# Altium schematic symbol library CHXXX.schlib: 418 symbols (part 2 of 6)
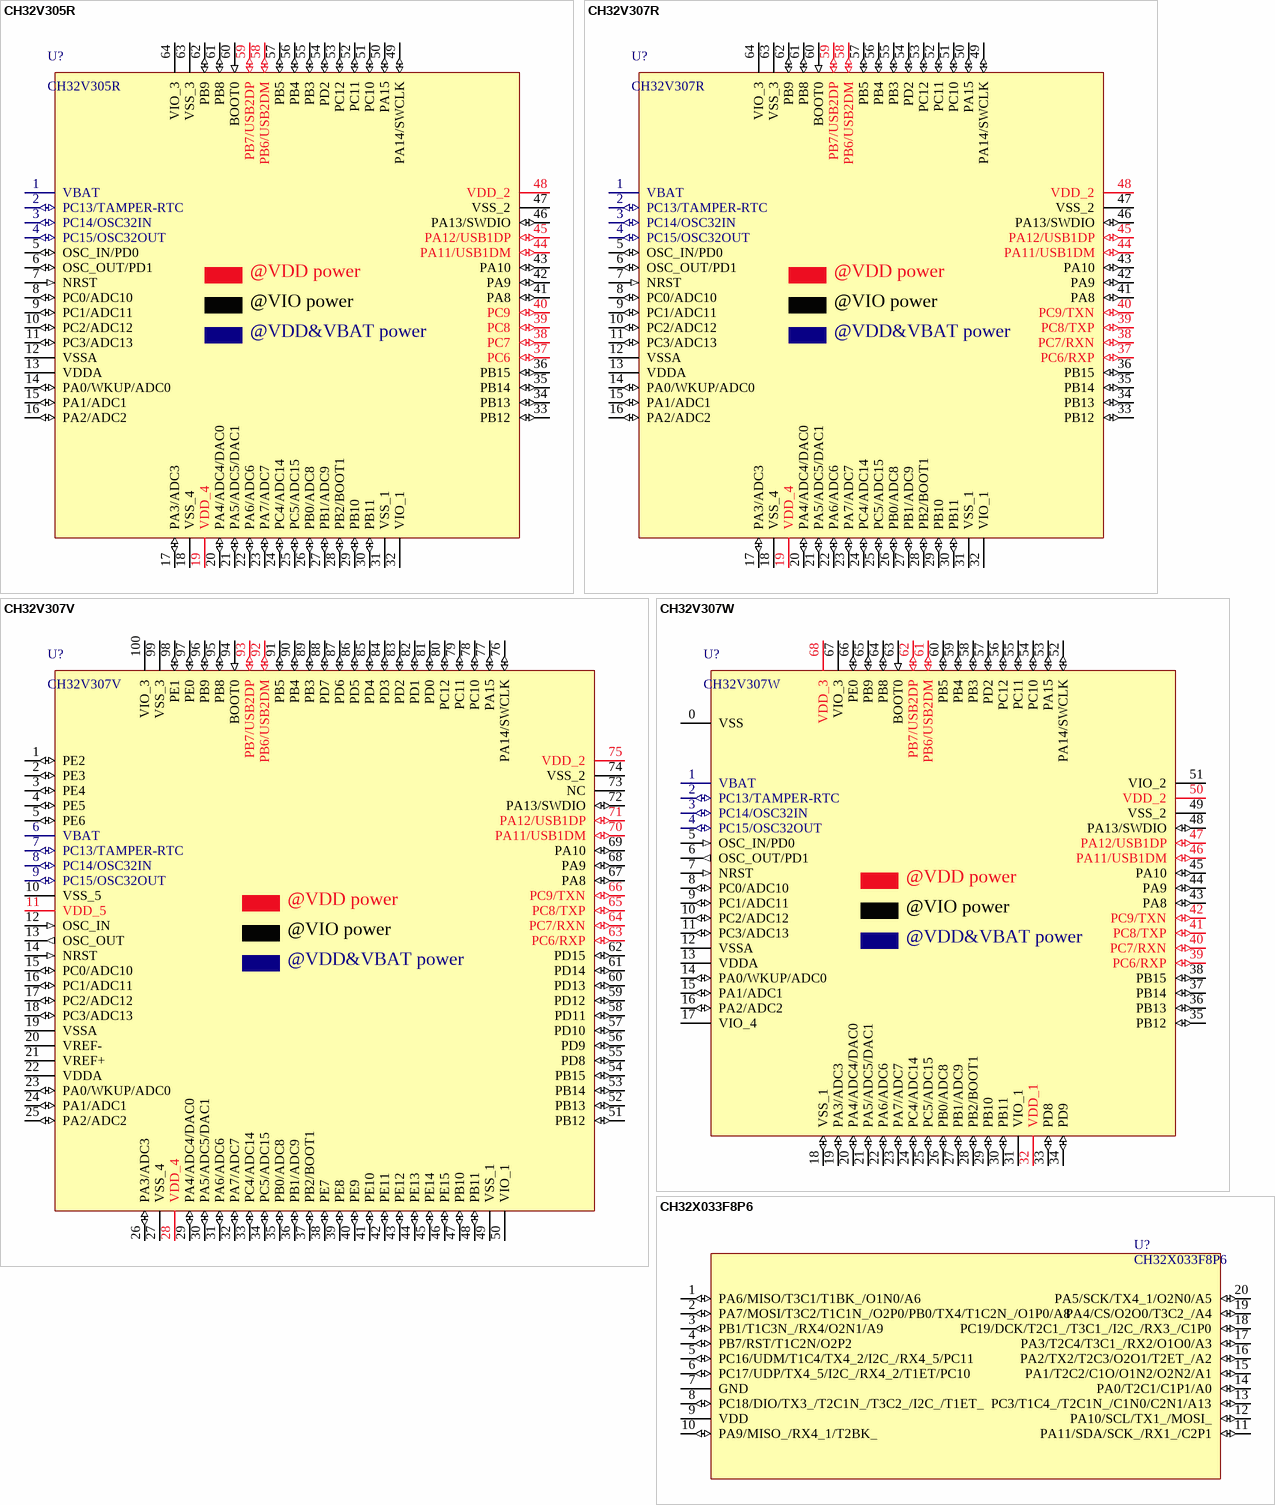
[diagram p51: symbols CH32V305R to CH32X033F8P6]

## CH32X033F8P6
designator U?
RISC-V MCU with USB/ADC/SPI/I2C/UART*4/OA*2/CMP*2
footprint TSSOP20 (Footprint not found)
pins: 1 PA6/MISO/T3C1/T1BK_/O1N0/A6 (io), 2 PA7/MOSI/T3C2/T1C1N_/O2P0/PB0/TX4/T1C2N_/O1P0/A8 (io), 3 PB1/T1C3N_/RX4/O2N1/A9 (io), 4 PB7/RST/T1C2N/O2P2 (io), 5 PC16/UDM/T1C4/TX4_2/I2C_/RX4_5/PC11 (io), 6 PC17/UDP/TX4_5/I2C_/RX4_2/T1ET/PC10 (io), 7 GND (power), 8 PC18/DIO/TX3_/T2C1N_/T3C2_/I2C_/T1ET_ (io), 9 VDD (power), 10 PA9/MISO_/RX4_1/T2BK_ (io), 11 PA11/SDA/SCK_/RX1_/C2P1 (io), 12 PA10/SCL/TX1_/MOSI_ (io), 13 PC3/T1C4_/T2C1N_/C1N0/C2N1/A13 (io), 14 PA0/T2C1/C1P1/A0 (io), 15 PA1/T2C2/C1O/O1N2/O2N2/A1 (io), 16 PA2/TX2/T2C3/O2O1/T2ET_/A2 (io), 17 PA3/T2C4/T3C1_/RX2/O1O0/A3 (io), 18 PC19/DCK/T2C1_/T3C1_/I2C_/RX3_/C1P0 (io), 19 PA4/CS/O2O0/T3C2_/A4 (io), 20 PA5/SCK/TX4_1/O2N0/A5 (io)

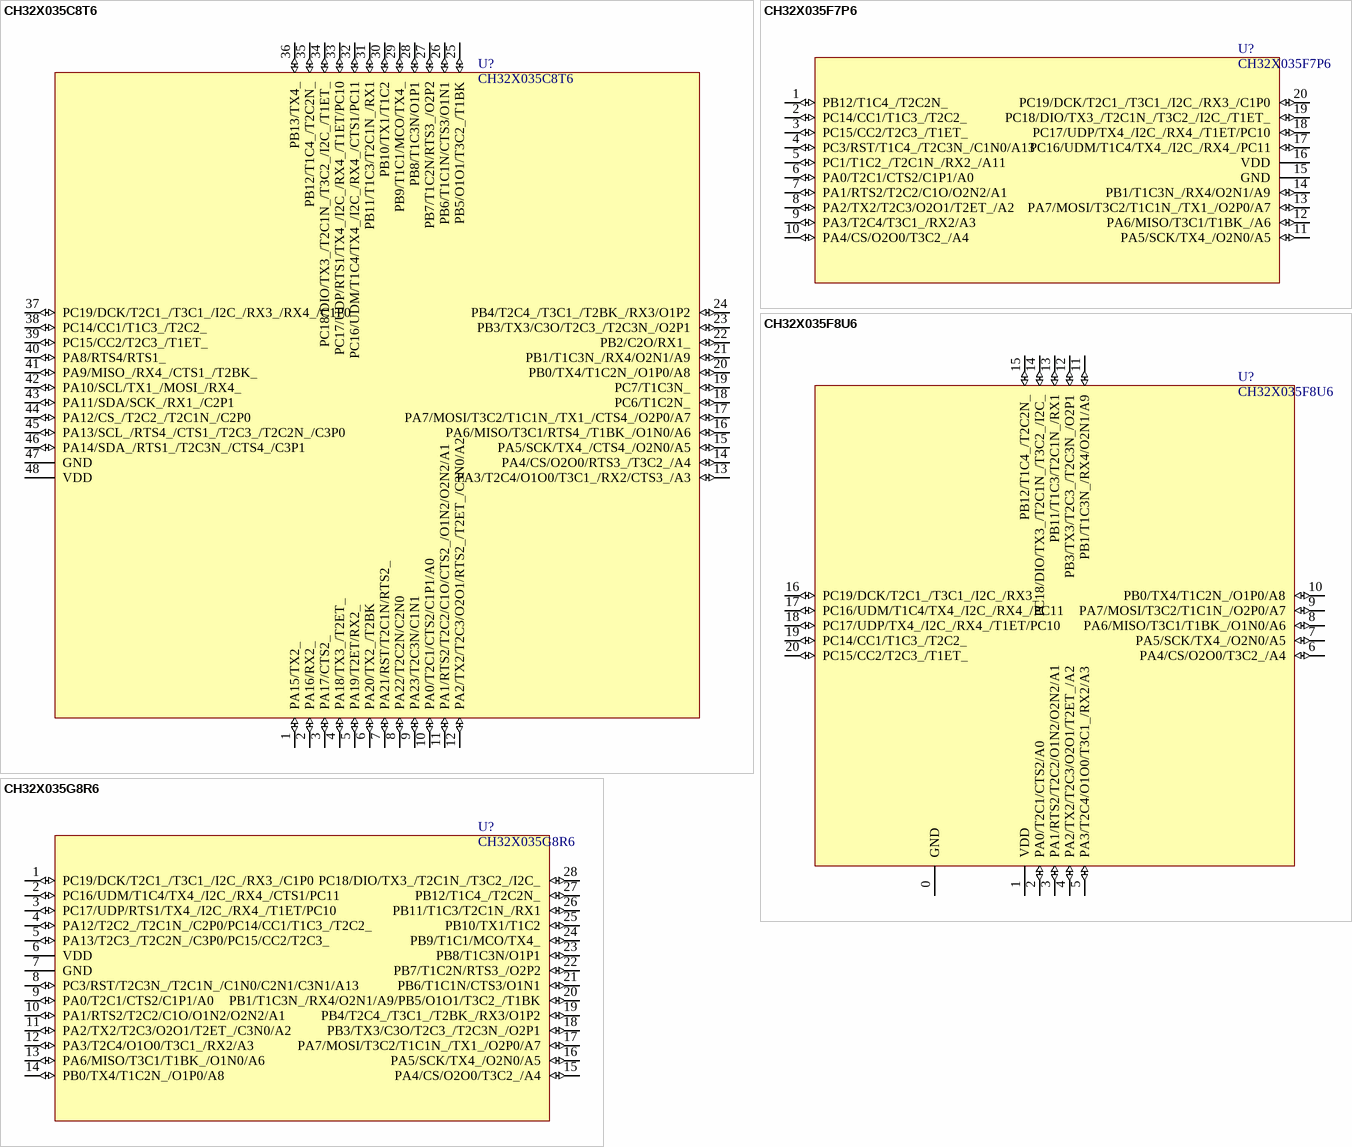
[diagram p9: symbols CH32X035C8T6 to CH32X035G8R6]

## CH32X035C8T6
designator U?
RISC-V MCU with USB/PD/ADC/SPI/I2C/UART/OA/CMP
footprint LQFP48 (Footprint not found)
pins: 1 PA15/TX2_ (io), 2 PA16/RX2_ (io), 3 PA17/CTS2_ (io), 4 PA18/TX3_/T2ET_ (io), 5 PA19/T2ET/RX2_ (io), 6 PA20/TX2_/T2BK (io), 7 PA21/RST/T2C1N/RTS2_ (io), 8 PA22/T2C2N/C2N0 (io), 9 PA23/T2C3N/C1N1 (io), 10 PA0/T2C1/CTS2/C1P1/A0 (io), 11 PA1/RTS2/T2C2/C1O/CTS2_/O1N2/O2N2/A1 (io), 12 PA2/TX2/T2C3/O2O1/RTS2_/T2ET_/C3N0/A2 (io), 13 PA3/T2C4/O1O0/T3C1_/RX2/CTS3_/A3 (io), 14 PA4/CS/O2O0/RTS3_/T3C2_/A4 (io), 15 PA5/SCK/TX4_/CTS4_/O2N0/A5 (io), 16 PA6/MISO/T3C1/RTS4_/T1BK_/O1N0/A6 (io), 17 PA7/MOSI/T3C2/T1C1N_/TX1_/CTS4_/O2P0/A7 (io), 18 PC6/T1C2N_ (io), 19 PC7/T1C3N_ (io), 20 PB0/TX4/T1C2N_/O1P0/A8 (io), 21 PB1/T1C3N_/RX4/O2N1/A9 (io), 22 PB2/C2O/RX1_ (io), 23 PB3/TX3/C3O/T2C3_/T2C3N_/O2P1 (io), 24 PB4/T2C4_/T3C1_/T2BK_/RX3/O1P2 (io), 25 PB5/O1O1/T3C2_/T1BK (io), 26 PB6/T1C1N/CTS3/O1N1 (io), 27 PB7/T1C2N/RTS3_/O2P2 (io), 28 PB8/T1C3N/O1P1 (io), 29 PB9/T1C1/MCO/TX4_ (io), 30 PB10/TX1/T1C2 (io), 31 PB11/T1C3/T2C1N_/RX1 (io), 32 PC16/UDM/T1C4/TX4_/I2C_/RX4_/CTS1/PC11 (io), 33 PC17/UDP/RTS1/TX4_/I2C_/RX4_/T1ET/PC10 (io), 34 PC18/DIO/TX3_/T2C1N_/T3C2_/I2C_/T1ET_ (io), 35 PB12/T1C4_/T2C2N_ (io), 36 PB13/TX4_ (io), 37 PC19/DCK/T2C1_/T3C1_/I2C_/RX3_/RX4_/C1P0 (io), 38 PC14/CC1/T1C3_/T2C2_ (io), 39 PC15/CC2/T2C3_/T1ET_ (io), 40 PA8/RTS4/RTS1_ (io), 41 PA9/MISO_/RX4_/CTS1_/T2BK_ (io), 42 PA10/SCL/TX1_/MOSI_/RX4_ (io), 43 PA11/SDA/SCK_/RX1_/C2P1 (io), 44 PA12/CS_/T2C2_/T2C1N_/C2P0 (io), 45 PA13/SCL_/RTS4_/CTS1_/T2C3_/T2C2N_/C3P0 (io), 46 PA14/SDA_/RTS1_/T2C3N_/CTS4_/C3P1 (io), 47 GND (power), 48 VDD (power)

## CH32X035F7P6
designator U?
RISC-V MCU with USB/PD/ADC/SPI/I2C/UART/OA/CMP
footprint TSSOP20 (Footprint not found)
pins: 1 PB12/T1C4_/T2C2N_ (io), 2 PC14/CC1/T1C3_/T2C2_ (io), 3 PC15/CC2/T2C3_/T1ET_ (io), 4 PC3/RST/T1C4_/T2C3N_/C1N0/A13 (io), 5 PC1/T1C2_/T2C1N_/RX2_/A11 (io), 6 PA0/T2C1/CTS2/C1P1/A0 (io), 7 PA1/RTS2/T2C2/C1O/O2N2/A1 (io), 8 PA2/TX2/T2C3/O2O1/T2ET_/A2 (io), 9 PA3/T2C4/T3C1_/RX2/A3 (io), 10 PA4/CS/O2O0/T3C2_/A4 (io), 11 PA5/SCK/TX4_/O2N0/A5 (io), 12 PA6/MISO/T3C1/T1BK_/A6 (io), 13 PA7/MOSI/T3C2/T1C1N_/TX1_/O2P0/A7 (io), 14 PB1/T1C3N_/RX4/O2N1/A9 (io), 15 GND (power), 16 VDD (power), 17 PC16/UDM/T1C4/TX4_/I2C_/RX4_/PC11 (io), 18 PC17/UDP/TX4_/I2C_/RX4_/T1ET/PC10 (io), 19 PC18/DIO/TX3_/T2C1N_/T3C2_/I2C_/T1ET_ (io), 20 PC19/DCK/T2C1_/T3C1_/I2C_/RX3_/C1P0 (io)

## CH32X035F8U6
designator U?
RISC-V MCU with USB/PD/ADC/SPI/I2C/UART/OA
footprint QFN20_3X3 (Footprint not found)
pins: 0 GND (power), 1 VDD (power), 2 PA0/T2C1/CTS2/A0 (io), 3 PA1/RTS2/T2C2/O1N2/O2N2/A1 (io), 4 PA2/TX2/T2C3/O2O1/T2ET_/A2 (io), 5 PA3/T2C4/O1O0/T3C1_/RX2/A3 (io), 6 PA4/CS/O2O0/T3C2_/A4 (io), 7 PA5/SCK/TX4_/O2N0/A5 (io), 8 PA6/MISO/T3C1/T1BK_/O1N0/A6 (io), 9 PA7/MOSI/T3C2/T1C1N_/O2P0/A7 (io), 10 PB0/TX4/T1C2N_/O1P0/A8 (io), 11 PB1/T1C3N_/RX4/O2N1/A9 (io), 12 PB3/TX3/T2C3_/T2C3N_/O2P1 (io), 13 PB11/T1C3/T2C1N_/RX1 (io), 14 PC18/DIO/TX3_/T2C1N_/T3C2_/I2C_ (io), 15 PB12/T1C4_/T2C2N_ (io), 16 PC19/DCK/T2C1_/T3C1_/I2C_/RX3_ (io), 17 PC16/UDM/T1C4/TX4_/I2C_/RX4_/PC11 (io), 18 PC17/UDP/TX4_/I2C_/RX4_/T1ET/PC10 (io), 19 PC14/CC1/T1C3_/T2C2_ (io), 20 PC15/CC2/T2C3_/T1ET_ (io)

## CH32X035G8R6
designator U?
RISC-V MCU with USB/PD/ADC/SPI/I2C/UART/OA/CMP
footprint QSOP28 (Footprint not found)
pins: 1 PC19/DCK/T2C1_/T3C1_/I2C_/RX3_/C1P0 (io), 2 PC16/UDM/T1C4/TX4_/I2C_/RX4_/CTS1/PC11 (io), 3 PC17/UDP/RTS1/TX4_/I2C_/RX4_/T1ET/PC10 (io), 4 PA12/T2C2_/T2C1N_/C2P0/PC14/CC1/T1C3_/T2C2_ (io), 5 PA13/T2C3_/T2C2N_/C3P0/PC15/CC2/T2C3_ (io), 6 VDD (power), 7 GND (power), 8 PC3/RST/T2C3N_/T2C1N_/C1N0/C2N1/C3N1/A13 (io), 9 PA0/T2C1/CTS2/C1P1/A0 (io), 10 PA1/RTS2/T2C2/C1O/O1N2/O2N2/A1 (io), 11 PA2/TX2/T2C3/O2O1/T2ET_/C3N0/A2 (io), 12 PA3/T2C4/O1O0/T3C1_/RX2/A3 (io), 13 PA6/MISO/T3C1/T1BK_/O1N0/A6 (io), 14 PB0/TX4/T1C2N_/O1P0/A8 (io), 15 PA4/CS/O2O0/T3C2_/A4 (io), 16 PA5/SCK/TX4_/O2N0/A5 (io), 17 PA7/MOSI/T3C2/T1C1N_/TX1_/O2P0/A7 (io), 18 PB3/TX3/C3O/T2C3_/T2C3N_/O2P1 (io), 19 PB4/T2C4_/T3C1_/T2BK_/RX3/O1P2 (io), 20 PB1/T1C3N_/RX4/O2N1/A9/PB5/O1O1/T3C2_/T1BK (io), 21 PB6/T1C1N/CTS3/O1N1 (io), 22 PB7/T1C2N/RTS3_/O2P2 (io), 23 PB8/T1C3N/O1P1 (io), 24 PB9/T1C1/MCO/TX4_ (io), 25 PB10/TX1/T1C2 (io), 26 PB11/T1C3/T2C1N_/RX1 (io), 27 PB12/T1C4_/T2C2N_ (io), 28 PC18/DIO/TX3_/T2C1N_/T3C2_/I2C_ (io)

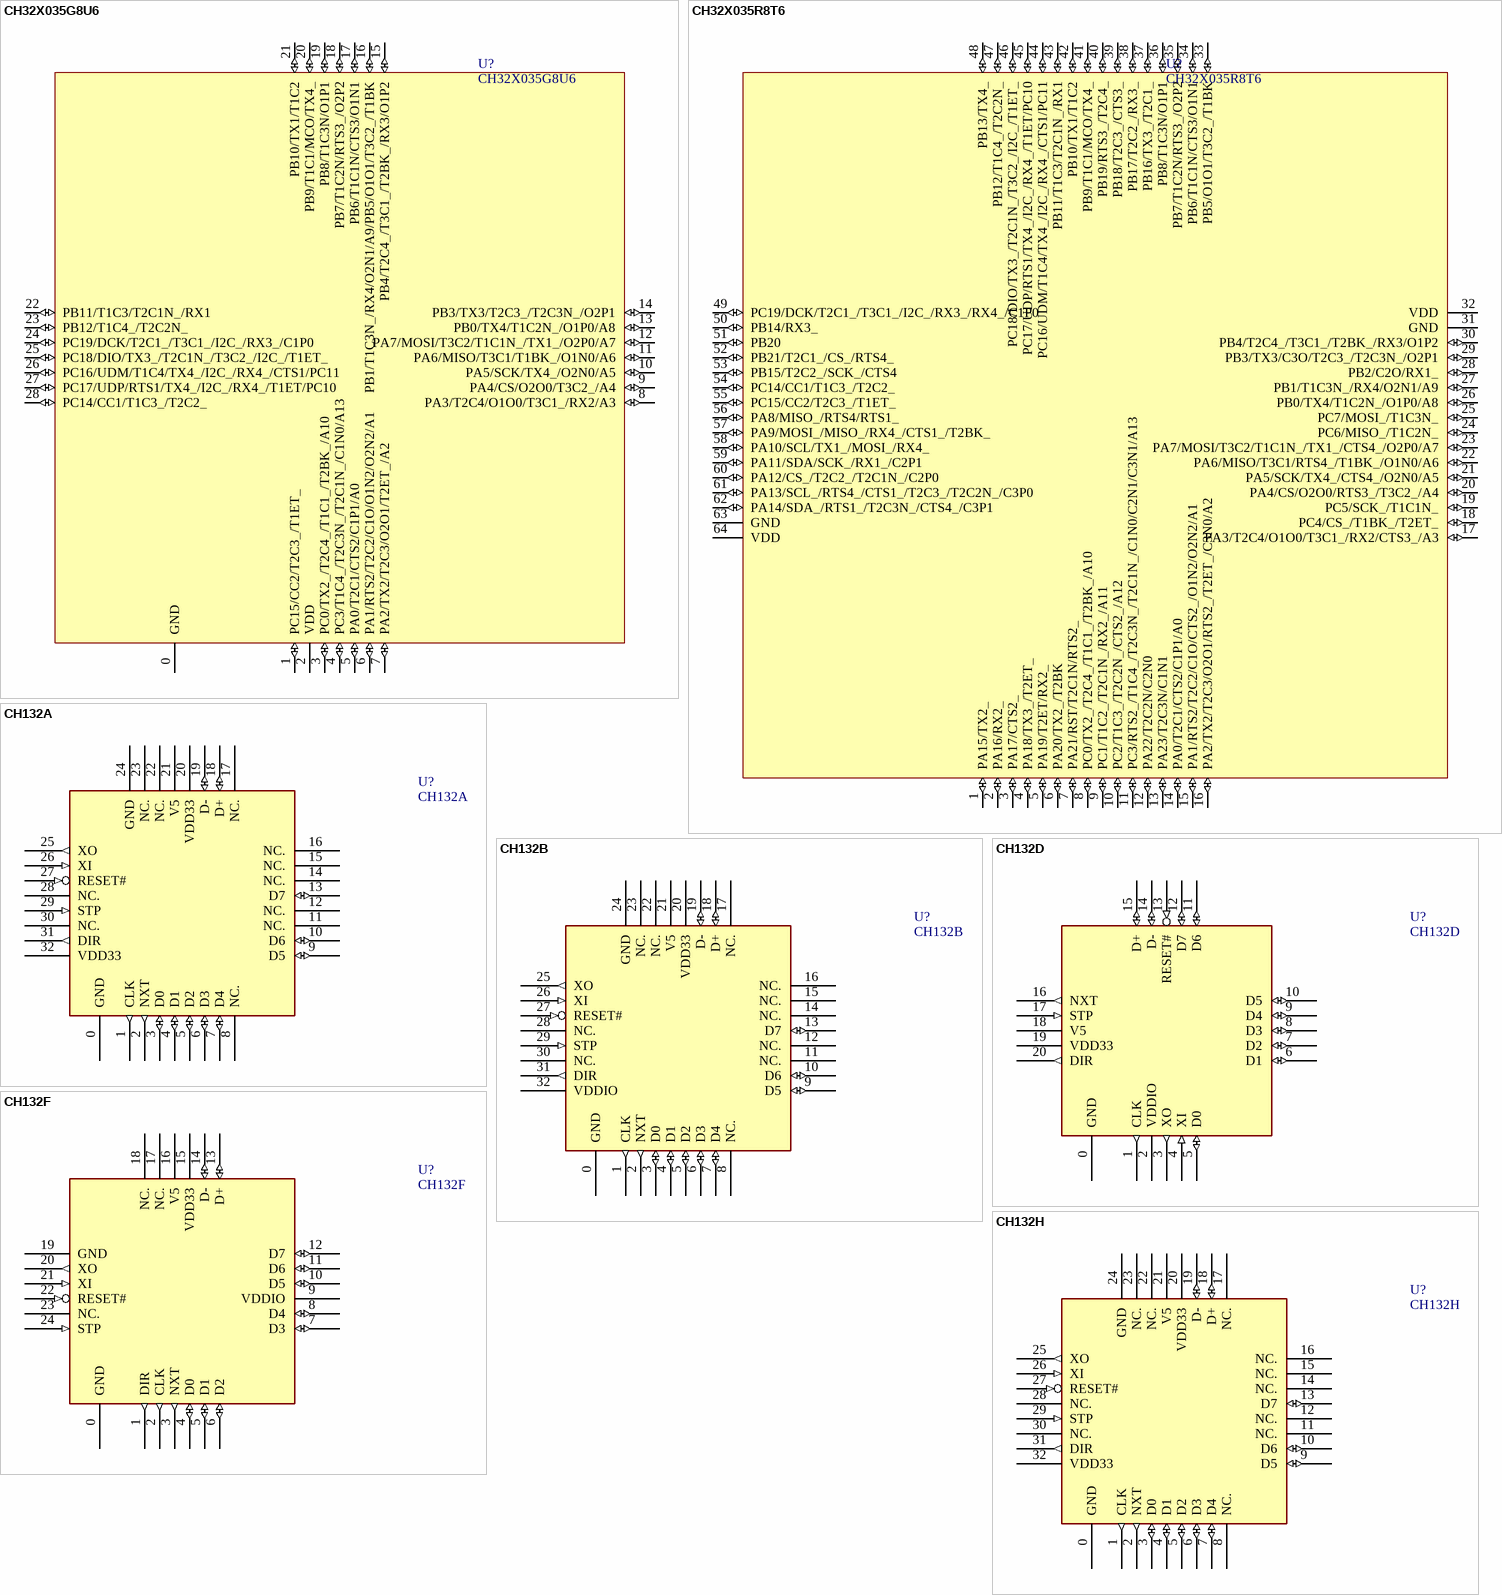
[diagram p10: symbols CH32X035G8U6 to CH132H]

## CH32X035G8U6
designator U?
RISC-V MCU with USB/PD/ADC/SPI/I2C/UART/OA/CMP
footprint QFN28_4X4 (Footprint not found)
pins: 0 GND (power), 1 PC15/CC2/T2C3_/T1ET_ (io), 2 VDD (power), 3 PC0/TX2_/T2C4_/T1C1_/T2BK_/A10 (io), 4 PC3/T1C4_/T2C3N_/T2C1N_/C1N0/A13 (io), 5 PA0/T2C1/CTS2/C1P1/A0 (io), 6 PA1/RTS2/T2C2/C1O/O1N2/O2N2/A1 (io), 7 PA2/TX2/T2C3/O2O1/T2ET_/A2 (io), 8 PA3/T2C4/O1O0/T3C1_/RX2/A3 (io), 9 PA4/CS/O2O0/T3C2_/A4 (io), 10 PA5/SCK/TX4_/O2N0/A5 (io), 11 PA6/MISO/T3C1/T1BK_/O1N0/A6 (io), 12 PA7/MOSI/T3C2/T1C1N_/TX1_/O2P0/A7 (io), 13 PB0/TX4/T1C2N_/O1P0/A8 (io), 14 PB3/TX3/T2C3_/T2C3N_/O2P1 (io), 15 PB4/T2C4_/T3C1_/T2BK_/RX3/O1P2 (io), 16 PB1/T1C3N_/RX4/O2N1/A9/PB5/O1O1/T3C2_/T1BK (io), 17 PB6/T1C1N/CTS3/O1N1 (io), 18 PB7/T1C2N/RTS3_/O2P2 (io), 19 PB8/T1C3N/O1P1 (io), 20 PB9/T1C1/MCO/TX4_ (io), 21 PB10/TX1/T1C2 (io), 22 PB11/T1C3/T2C1N_/RX1 (io), 23 PB12/T1C4_/T2C2N_ (io), 24 PC19/DCK/T2C1_/T3C1_/I2C_/RX3_/C1P0 (io), 25 PC18/DIO/TX3_/T2C1N_/T3C2_/I2C_/T1ET_ (io), 26 PC16/UDM/T1C4/TX4_/I2C_/RX4_/CTS1/PC11 (io), 27 PC17/UDP/RTS1/TX4_/I2C_/RX4_/T1ET/PC10 (io), 28 PC14/CC1/T1C3_/T2C2_ (io)

## CH32X035R8T6
designator U?
RISC-V MCU with USB/PD/ADC/SPI/I2C/UART/OA/CMP
footprint LQFP64M_10x10
pins: 1 PA15/TX2_ (io), 2 PA16/RX2_ (io), 3 PA17/CTS2_ (io), 4 PA18/TX3_/T2ET_ (io), 5 PA19/T2ET/RX2_ (io), 6 PA20/TX2_/T2BK (io), 7 PA21/RST/T2C1N/RTS2_ (io), 8 PC0/TX2_/T2C4_/T1C1_/T2BK_/A10 (io), 9 PC1/T1C2_/T2C1N_/RX2_/A11 (io), 10 PC2/T1C3_/T2C2N_/CTS2_/A12 (io), 11 PC3/RTS2_/T1C4_/T2C3N_/T2C1N_/C1N0/C2N1/C3N1/A13 (io), 12 PA22/T2C2N/C2N0 (io), 13 PA23/T2C3N/C1N1 (io), 14 PA0/T2C1/CTS2/C1P1/A0 (io), 15 PA1/RTS2/T2C2/C1O/CTS2_/O1N2/O2N2/A1 (io), 16 PA2/TX2/T2C3/O2O1/RTS2_/T2ET_/C3N0/A2 (io), 17 PA3/T2C4/O1O0/T3C1_/RX2/CTS3_/A3 (io), 18 PC4/CS_/T1BK_/T2ET_ (io), 19 PC5/SCK_/T1C1N_ (io), 20 PA4/CS/O2O0/RTS3_/T3C2_/A4 (io), 21 PA5/SCK/TX4_/CTS4_/O2N0/A5 (io), 22 PA6/MISO/T3C1/RTS4_/T1BK_/O1N0/A6 (io), 23 PA7/MOSI/T3C2/T1C1N_/TX1_/CTS4_/O2P0/A7 (io), 24 PC6/MISO_/T1C2N_ (io), 25 PC7/MOSI_/T1C3N_ (io), 26 PB0/TX4/T1C2N_/O1P0/A8 (io), 27 PB1/T1C3N_/RX4/O2N1/A9 (io), 28 PB2/C2O/RX1_ (io), 29 PB3/TX3/C3O/T2C3_/T2C3N_/O2P1 (io), 30 PB4/T2C4_/T3C1_/T2BK_/RX3/O1P2 (io), 31 GND (power), 32 VDD (power), 33 PB5/O1O1/T3C2_/T1BK (io), 34 PB6/T1C1N/CTS3/O1N1 (io), 35 PB7/T1C2N/RTS3_/O2P2 (io), 36 PB8/T1C3N/O1P1 (io), 37 PB16/TX3_/T2C1_ (io), 38 PB17/T2C2_/RX3_ (io), 39 PB18/T2C3_/CTS3_ (io), 40 PB19/RTS3_/T2C4_ (io), 41 PB9/T1C1/MCO/TX4_ (io), 42 PB10/TX1/T1C2 (io), 43 PB11/T1C3/T2C1N_/RX1 (io), 44 PC16/UDM/T1C4/TX4_/I2C_/RX4_/CTS1/PC11 (io), 45 PC17/UDP/RTS1/TX4_/I2C_/RX4_/T1ET/PC10 (io), 46 PC18/DIO/TX3_/T2C1N_/T3C2_/I2C_/T1ET_ (io), 47 PB12/T1C4_/T2C2N_ (io), 48 PB13/TX4_ (io), 49 PC19/DCK/T2C1_/T3C1_/I2C_/RX3_/RX4_/C1P0 (io), 50 PB14/RX3_ (io), 51 PB20 (io), 52 PB21/T2C1_/CS_/RTS4_ (io), 53 PB15/T2C2_/SCK_/CTS4 (io), 54 PC14/CC1/T1C3_/T2C2_ (io), 55 PC15/CC2/T2C3_/T1ET_ (io), 56 PA8/MISO_/RTS4/RTS1_ (io), 57 PA9/MOSI_/MISO_/RX4_/CTS1_/T2BK_ (io), 58 PA10/SCL/TX1_/MOSI_/RX4_ (io), 59 PA11/SDA/SCK_/RX1_/C2P1 (io), 60 PA12/CS_/T2C2_/T2C1N_/C2P0 (io), 61 PA13/SCL_/RTS4_/CTS1_/T2C3_/T2C2N_/C3P0 (io), 62 PA14/SDA_/RTS1_/T2C3N_/CTS4_/C3P1 (io), 63 GND (power), 64 VDD (power)

## CH132A
designator U?
ULPI High-Speed USB PHY (Transceiver)
footprint QFN32_5X5 (Footprint not found)
pins: 0 GND (power), 1 CLK (out), 2 NXT (out), 3 D0 (io), 4 D1 (io), 5 D2 (io), 6 D3 (io), 7 D4 (io), 8 NC., 9 D5 (io), 10 D6 (io), 11 NC., 12 NC., 13 D7 (io), 14 NC., 15 NC., 16 NC., 17 NC., 18 D+ (io), 19 D- (io), 20 VDD33 (power), 21 V5 (power), 22 NC., 23 NC., 24 GND (power), 25 XO (out), 26 XI (in), 27 RESET# (in), 28 NC., 29 STP (in), 30 NC., 31 DIR (out), 32 VDD33
2 alternate drawings of the same symbol

## CH132B
designator U?
ULPI High-Speed USB PHY (Transceiver)
footprint QFN32_5X5 (Footprint not found)
pins: 0 GND (power), 1 CLK (out), 2 NXT (out), 3 D0 (io), 4 D1 (io), 5 D2 (io), 6 D3 (io), 7 D4 (io), 8 NC., 9 D5 (io), 10 D6 (io), 11 NC., 12 NC., 13 D7 (io), 14 NC., 15 NC., 16 NC., 17 NC., 18 D+ (io), 19 D- (io), 20 VDD33 (power), 21 V5 (power), 22 NC., 23 NC., 24 GND (power), 25 XO (out), 26 XI (in), 27 RESET# (in), 28 NC., 29 STP (in), 30 NC., 31 DIR (out), 32 VDDIO
2 alternate drawings of the same symbol

## CH132D
designator U?
ULPI High-Speed USB PHY (Transceiver)
footprint QFN20_3X3 (Footprint not found)
pins: 0 GND (power), 1 CLK (out), 2 VDDIO (power), 3 XO (out), 4 XI (in), 5 D0 (io), 6 D1 (io), 7 D2 (io), 8 D3 (io), 9 D4 (io), 10 D5 (io), 11 D6 (io), 12 D7 (io), 13 RESET# (in), 14 D- (io), 15 D+ (io), 16 NXT (out), 17 STP (in), 18 V5 (power), 19 VDD33 (power), 20 DIR (out)
2 alternate drawings of the same symbol

## CH132F
designator U?
ULPI High-Speed USB PHY (Transceiver)
footprint QFN24_4X4 (Footprint not found)
pins: 0 GND (power), 1 DIR (out), 2 CLK (out), 3 NXT (out), 4 D0 (io), 5 D1 (io), 6 D2 (io), 7 D3 (io), 8 D4 (io), 9 VDDIO (power), 10 D5 (io), 11 D6 (io), 12 D7 (io), 13 D+ (io), 14 D- (io), 15 VDD33 (power), 16 V5 (power), 17 NC., 18 NC., 19 GND (power), 20 XO (out), 21 XI (in), 22 RESET# (in), 23 NC., 24 STP (in)
2 alternate drawings of the same symbol

## CH132H
designator U?
ULPI High-Speed USB PHY (Transceiver)
footprint QFN32_5X5 (Footprint not found)
pins: 0 GND (power), 1 CLK (out), 2 NXT (out), 3 D0 (io), 4 D1 (io), 5 D2 (io), 6 D3 (io), 7 D4 (io), 8 NC., 9 D5 (io), 10 D6 (io), 11 NC., 12 NC., 13 D7 (io), 14 NC., 15 NC., 16 NC., 17 NC., 18 D+ (io), 19 D- (io), 20 VDD33 (power), 21 V5 (power), 22 NC., 23 NC., 24 GND (power), 25 XO (out), 26 XI (in), 27 RESET# (in), 28 NC., 29 STP (in), 30 NC., 31 DIR (out), 32 VDD33 (power)
2 alternate drawings of the same symbol

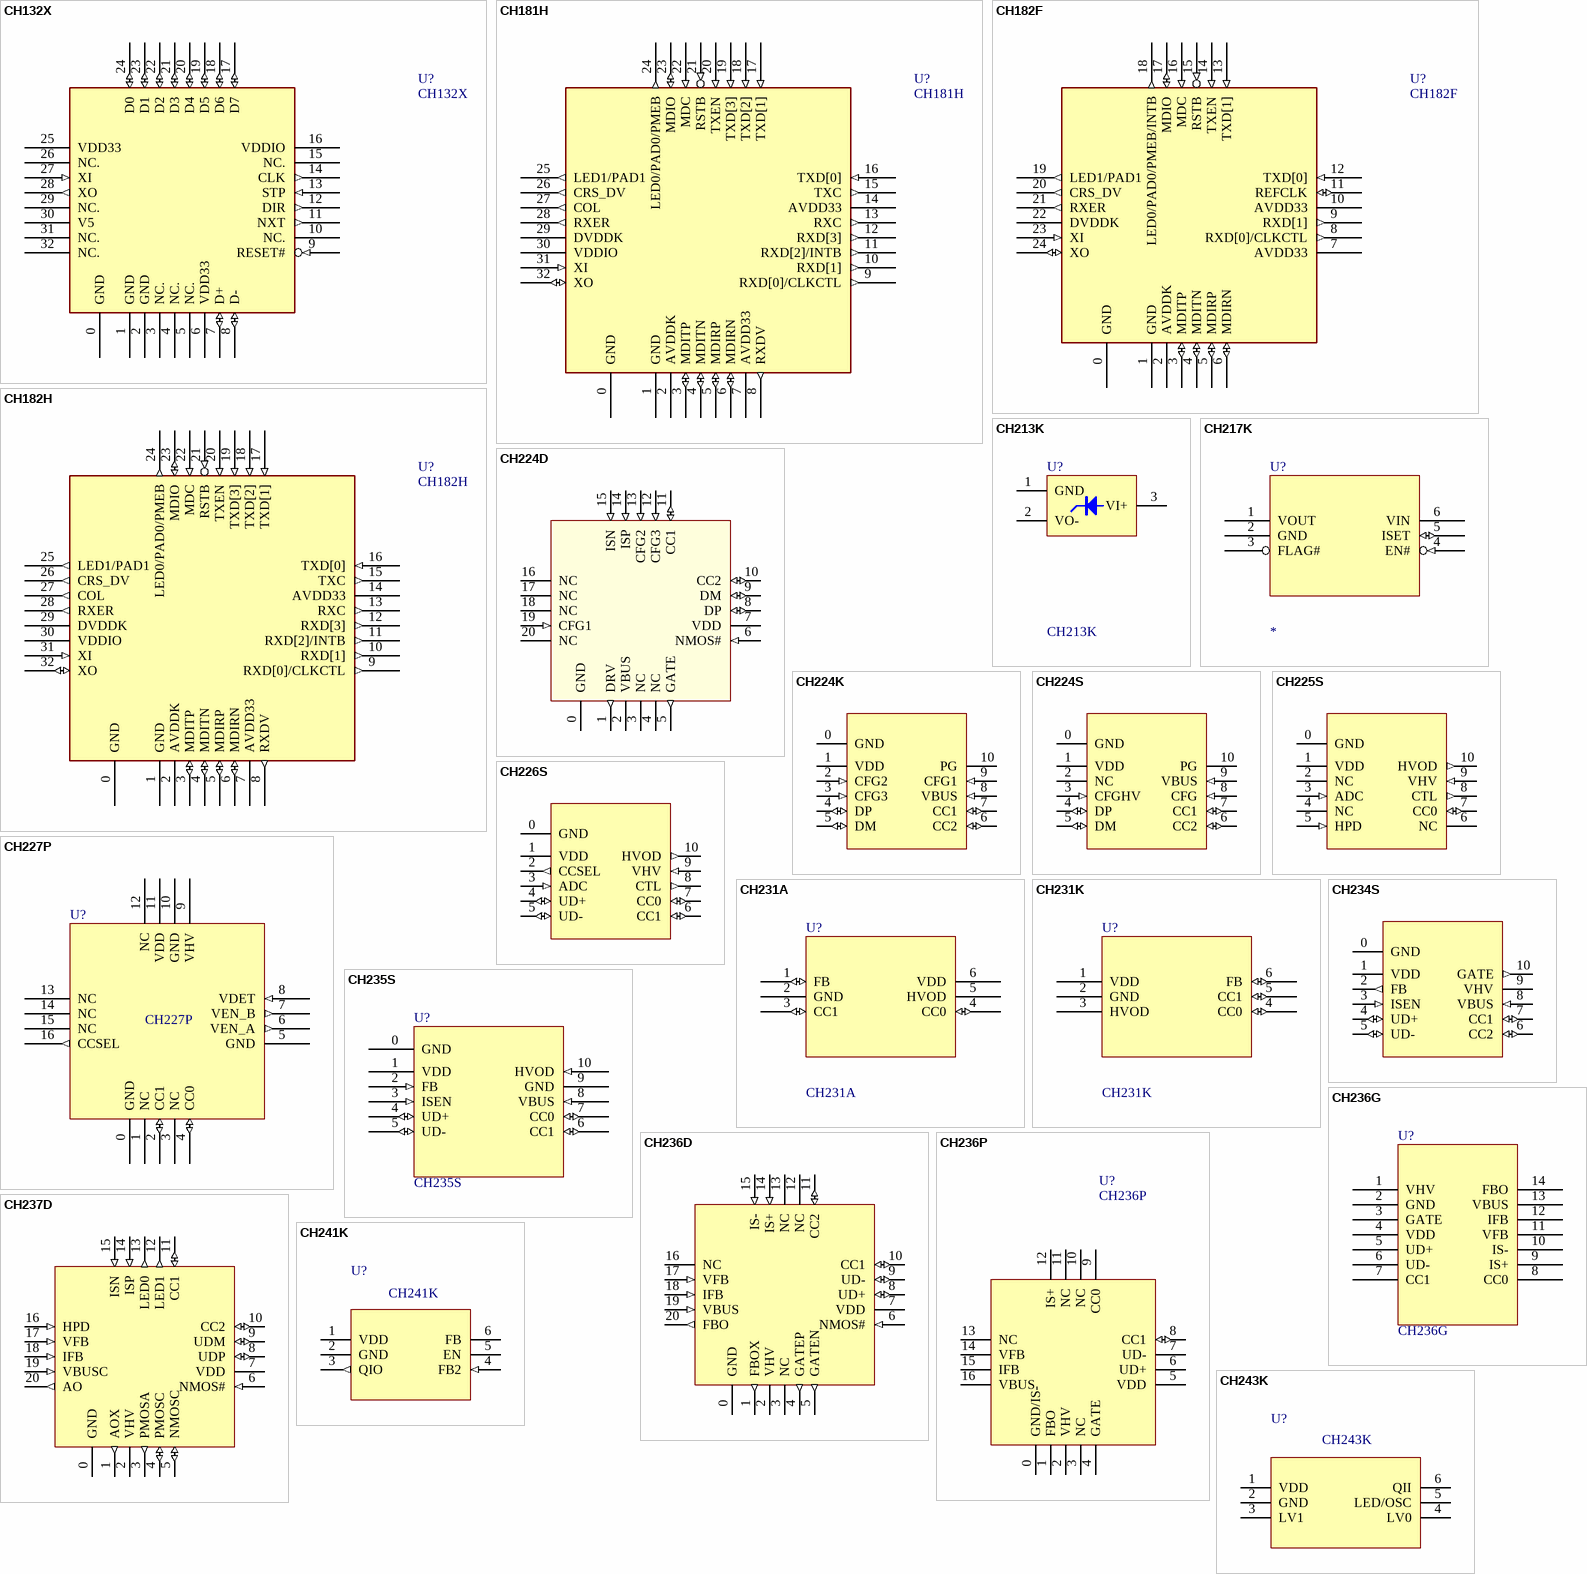
[diagram p11: symbols CH132X to CH243K]

## CH132X
designator U?
ULPI High-Speed USB PHY (Transceiver)
footprint QFN32_5X5 (Footprint not found)
pins: 0 GND (power), 1 GND (power), 2 GND (power), 3 NC., 4 NC., 5 NC., 6 VDD33 (power), 7 D+ (io), 8 D- (io), 9 RESET# (in), 10 NC., 11 NXT (out), 12 DIR (out), 13 STP (in), 14 CLK (out), 15 NC., 16 VDDIO (power), 17 D7 (io), 18 D6 (io), 19 D5 (io), 20 D4 (io), 21 D3 (io), 22 D2 (io), 23 D1 (io), 24 D0 (io), 25 VDD33 (power), 26 NC., 27 XI (in), 28 XO (out), 29 NC., 30 V5 (power), 31 NC., 32 NC.
2 alternate drawings of the same symbol

## CH181H
designator U?
MII/RMII 10/100M Ethernet PHY (Transceiver) with auto MDIX
footprint QFN32_5X5 (Footprint not found)
pins: 0 GND (power), 1 GND (power), 2 AVDDK (power), 3 MDITP (io), 4 MDITN (io), 5 MDIRP (io), 6 MDIRN (io), 7 AVDD33 (power), 8 RXDV (out), 9 RXD[0]/CLKCTL (out), 10 RXD[1] (out), 11 RXD[2]/INTB (out), 12 RXD[3] (out), 13 RXC (out), 14 AVDD33 (power), 15 TXC (out), 16 TXD[0] (in), 17 TXD[1] (in), 18 TXD[2] (in), 19 TXD[3] (in), 20 TXEN (in), 21 RSTB (in), 22 MDC (in), 23 MDIO (io), 24 LED0/PAD0/PMEB (out), 25 LED1/PAD1 (out), 26 CRS_DV (out), 27 COL (out), 28 RXER (out), 29 DVDDK (power), 30 VDDIO (power), 31 XI (in), 32 XO (io)
2 alternate drawings of the same symbol

## CH182F
designator U?
RMII 10/100M Ethernet PHY (Transceiver) with auto MDIX
footprint QFN24_4X4 (Footprint not found)
pins: 0 GND (power), 1 GND (power), 2 AVDDK (power), 3 MDITP (io), 4 MDITN (io), 5 MDIRP (io), 6 MDIRN (io), 7 AVDD33 (power), 8 RXD[0]/CLKCTL (out), 9 RXD[1] (out), 10 AVDD33 (power), 11 REFCLK (io), 12 TXD[0] (in), 13 TXD[1] (in), 14 TXEN (in), 15 RSTB (in), 16 MDC (in), 17 MDIO (io), 18 LED0/PAD0/PMEB/INTB (out), 19 LED1/PAD1 (out), 20 CRS_DV (out), 21 RXER (out), 22 DVDDK (power), 23 XI (in), 24 XO (io)
2 alternate drawings of the same symbol

## CH182H
designator U?
MII/RMII 10/100M Ethernet PHY (Transceiver) with auto MDIX
footprint QFN32_5X5 (Footprint not found)
pins: 0 GND (power), 1 GND (power), 2 AVDDK (power), 3 MDITP (io), 4 MDITN (io), 5 MDIRP (io), 6 MDIRN (io), 7 AVDD33 (power), 8 RXDV (out), 9 RXD[0]/CLKCTL (out), 10 RXD[1] (out), 11 RXD[2]/INTB (out), 12 RXD[3] (out), 13 RXC (out), 14 AVDD33 (power), 15 TXC (out), 16 TXD[0] (in), 17 TXD[1] (in), 18 TXD[2] (in), 19 TXD[3] (in), 20 TXEN (in), 21 RSTB (in), 22 MDC (in), 23 MDIO (io), 24 LED0/PAD0/PMEB (out), 25 LED1/PAD1 (out), 26 CRS_DV (out), 27 COL (out), 28 RXER (out), 29 DVDDK (power), 30 VDDIO (power), 31 XI (in), 32 XO (io)
2 alternate drawings of the same symbol

## CH213K
designator U?
Ideal Diode 5V*1A
footprint SOT23L (Footprint not found)
footprint SOT-23-3
pins: 1 GND (power), 2 VO- (power), 3 VI+ (power)

## CH217K
designator U?
Current-Limited USB Power Distribution Switch
footprint SOT-23-6
pins: 1 VOUT (power), 2 GND (power), 3 FLAG# (oc), 4 EN# (in), 5 ISET (io), 6 VIN (power)

## CH224D
designator U?  (value not drawn)
USB PD & Type-C & Fast Charge Power Consumer Controller
footprint QFN20_3X3
pins: 0 GND (power), 1 DRV (out), 2 VBUS (power), 3 NC, 4 NC, 5 GATE (out), 6 NMOS# (in), 7 VDD (power), 8 DP (io), 9 DM (io), 10 CC2 (io), 11 CC1 (io), 12 CFG3 (in), 13 CFG2 (in), 14 ISP (in), 15 ISN (in), 16 NC, 17 NC, 18 NC, 19 CFG1 (in), 20 NC

## CH224K
designator U?  (value not drawn)
USB PD & Type-C & Fast Charge Power Consumer Controller
footprint ESSOP10
pins: 0 GND (power), 1 VDD (power), 2 CFG2 (in), 3 CFG3 (in), 4 DP (io), 5 DM (io), 6 CC2 (io), 7 CC1 (io), 8 VBUS (in), 9 CFG1 (in), 10 PG

## CH224S
designator U?  (value not drawn)
USB PD & Type-C & Fast Charge Power Consumer Controller
footprint ESSOP10
pins: 0 GND (power), 1 VDD (power), 2 NC, 3 CFGHV (in), 4 DP (io), 5 DM (io), 6 CC2 (io), 7 CC1 (io), 8 CFG (in), 9 VBUS (in), 10 PG

## CH225S
designator U?  (value not drawn)
USB PD & Type-C & Fast Charge Power Consumer Controller
footprint ESSOP10
pins: 0 GND (power), 1 VDD (power), 2 NC, 3 ADC (in), 4 NC, 5 HPD (in), 6 NC, 7 CC0 (io), 8 CTL (out), 9 VHV (in), 10 HVOD (out)

## CH226S
designator U?  (value not drawn)
USB PD & Type-C & Fast Charge Power Consumer Controller
footprint ESSOP10
pins: 0 GND (power), 1 VDD (power), 2 CCSEL (out), 3 ADC (in), 4 UD+ (io), 5 UD- (io), 6 CC1 (io), 7 CC0 (io), 8 CTL (out), 9 VHV (in), 10 HVOD (out)

## CH227P
designator U?
USB PD & Type-C & Fast Charge Power Consumer Controller
footprint QFN16_3X3
pins: 0 GND (power), 1 NC, 2 CC1 (io), 3 NC, 4 CC0 (io), 5 GND (power), 6 VEN_A (out), 7 VEN_B (out), 8 VDET (in), 9 VHV (power), 10 GND (power), 11 VDD (power), 12 NC, 13 NC, 14 NC, 15 NC, 16 CCSEL (out)

## CH231A
designator U?
USB PD & Type-C Power Provider Controller
footprint SOT-23-6
pins: 1 FB (io), 2 GND (power), 3 CC1 (io), 4 CC0 (io), 5 HVOD (oc), 6 VDD (power)

## CH231K
designator U?
USB PD & Type-C Power Provider Controller
footprint SOT-23-6
pins: 1 VDD (power), 2 GND (power), 3 HVOD (oc), 4 CC0 (io), 5 CC1 (io), 6 FB (io)

## CH234S
designator U?  (value not drawn)
USB PD & Type-C & Fast Charge Power Provider Controller
footprint ESSOP10
pins: 0 GND (power), 1 VDD (power), 2 FB (out), 3 ISEN (in), 4 UD+ (io), 5 UD- (io), 6 CC2 (io), 7 CC1 (io), 8 VBUS (in), 9 VHV (power), 10 GATE (out)

## CH235S
designator U?
USB PD & Type-C & Fast Charge Power Provider Controller
footprint ESSOP10
pins: 0 GND (power), 1 VDD (power), 2 FB (in), 3 ISEN (in), 4 UD+ (io), 5 UD- (io), 6 CC1 (io), 7 CC0 (io), 8 VBUS (in), 9 GND (power), 10 HVOD (in)

## CH236D
designator U?  (value not drawn)
USB PD & Type-C & Fast Charge Power Provider Controller
footprint QFN20_3X3
pins: 0 GND (power), 1 FBOX (out), 2 VHV (power), 3 NC, 4 GATEP (out), 5 GATEN (out), 6 NMOS# (in), 7 VDD (power), 8 UD+ (io), 9 UD- (io), 10 CC1 (io), 11 CC2 (io), 12 NC, 13 NC, 14 IS+ (in), 15 IS- (in), 16 NC, 17 VFB (in), 18 IFB (in), 19 VBUS (in), 20 FBO (out)

## CH236G
designator U?
USB PD & Type-C & Fast Charge Power Provider Controller
footprint SOP14
pins: 1 VHV, 2 GND (power), 3 GATE, 4 VDD (power), 5 UD+, 6 UD-, 7 CC1, 8 CC0 (power), 9 IS+, 10 IS- (power), 11 VFB, 12 IFB, 13 VBUS, 14 FBO (power)
2 alternate drawings of the same symbol

## CH236P
designator U?
USB PD & Type-C & Fast Charge Power Provider Controller
footprint QFN16_3x3
pins: 0 GND/IS- (power), 1 FBO, 2 VHV (power), 3 NC, 4 GATE, 5 VDD (power), 6 UD+, 7 UD-, 8 CC1 (io), 9 CC0, 10 NC, 11 NC, 12 IS+, 13 NC, 14 VFB, 15 IFB, 16 VBUS
2 alternate drawings of the same symbol

## CH237D
designator U?  (value not drawn)
USB PD & Type-C & Fast Charge Power Provider Controller, A+C
footprint QFN20_3X3
pins: 0 GND (power), 1 AOX (out), 2 VHV (power), 3 PMOSA (out), 4 PMOSC (io), 5 NMOSC (io), 6 NMOS# (in), 7 VDD (power), 8 UDP (io), 9 UDM (io), 10 CC2 (io), 11 CC1 (io), 12 LED1 (out), 13 LED0 (out), 14 ISP (in), 15 ISN (in), 16 HPD (in), 17 VFB (in), 18 IFB (in), 19 VBUSC (in), 20 AO (out)

## CH241K
designator U?
无线充受电IC
footprint SOT-23-6
pins: 1 VDD (power), 2 GND (power), 3 QIO (out), 4 FB2 (in), 5 EN (power), 6 FB
2 alternate drawings of the same symbol

## CH243K
designator U?
小功率无线充发射IC
footprint SOT-23-6
pins: 1 VDD (power), 2 GND (power), 3 LV1, 4 LV0, 5 LED/OSC (power), 6 QII
2 alternate drawings of the same symbol

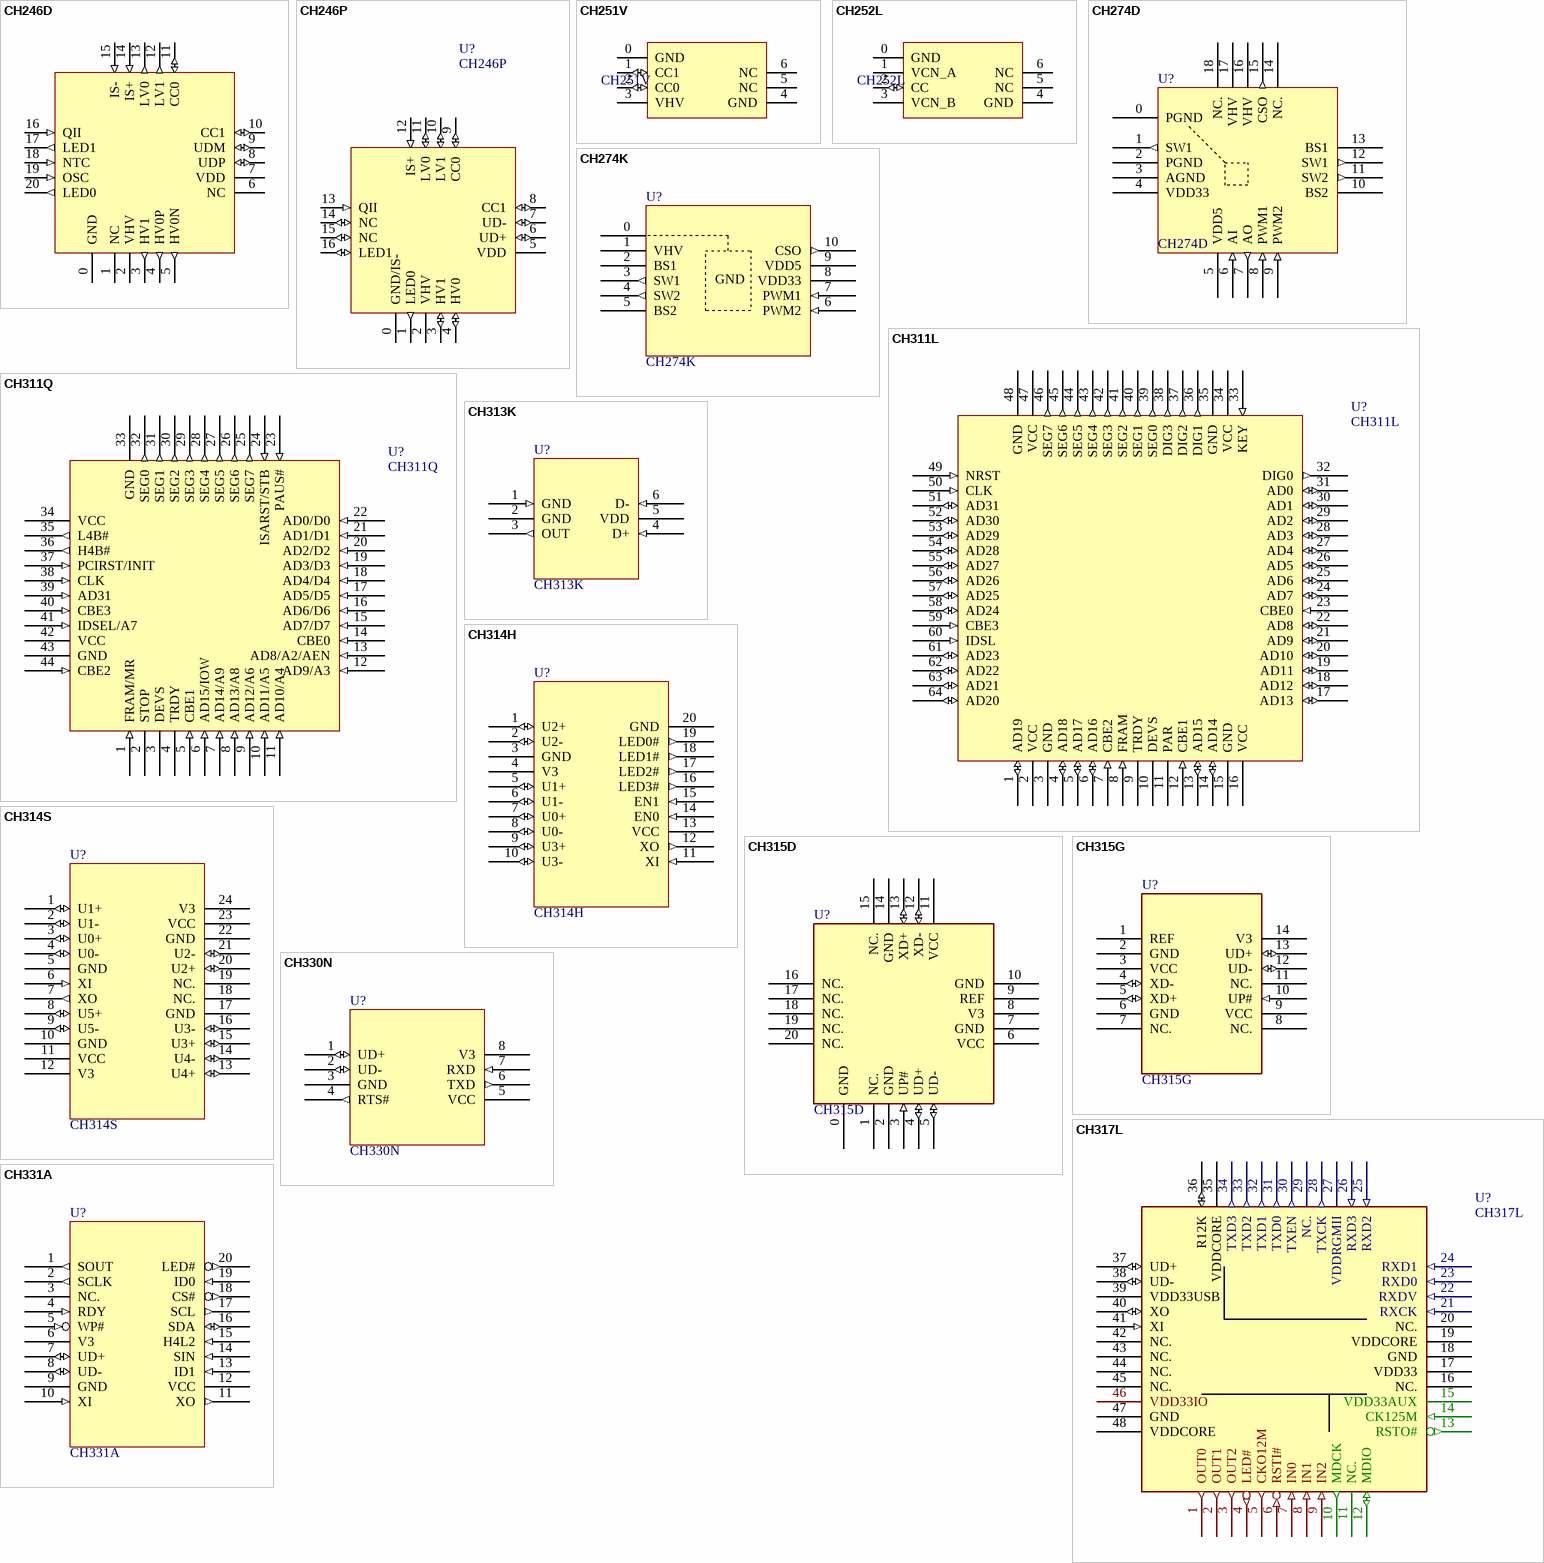
[diagram p12: symbols CH246D to CH331A]

## CH246D
designator U?  (value not drawn)
Wireless Charge Power Provider Controller with USB PD & Fast Charge Sink
footprint QFN20_3X3
pins: 0 GND (power), 1 NC, 2 VHV (power), 3 HV1 (out), 4 HV0P (out), 5 HV0N (out), 6 NC, 7 VDD (power), 8 UDP (io), 9 UDM (io), 10 CC1 (io), 11 CC0 (io), 12 LV1 (out), 13 LV0 (out), 14 IS+ (in), 15 IS- (in), 16 QII (in), 17 LED1 (out), 18 NTC (in), 19 OSC (in), 20 LED0 (out)

## CH246P
designator U?
QI charger with high voltage power manager
footprint QFN16_3x3
pins: 0 GND/IS- (power), 1 LED0 (out), 2 VHV (power), 3 HV1 (io), 4 HV0 (io), 5 VDD (power), 6 UD+ (io), 7 UD- (io), 8 CC1 (io), 9 CC0 (io), 10 LV1 (io), 11 LV0 (io), 12 IS+ (in), 13 QII (in), 14 NC (io), 15 NC (io), 16 LED1 (io)
2 alternate drawings of the same symbol

## CH251V
designator U?
USB Type-C cable E-Marker
footprint DFN6_2x2
pins: 0 GND (power), 1 CC1 (io), 2 CC0 (io), 3 VHV (power), 4 GND (power), 5 NC, 6 NC

## CH252L
designator U?
USB Type-C cable E-Marker
footprint DFN6_2x2
pins: 0 GND (power), 1 VCN_A (power), 2 CC (io), 3 VCN_B (power), 4 GND (power), 5 NC, 6 NC

## CH274D
designator U?
12V Full-Bridge Power Stage for Wireless Power Transmitter
footprint QFN18_3X3 (Footprint not found)
pins: 0 PGND (power), 1 SW1 (out), 2 PGND (power), 3 AGND (power), 4 VDD33 (power), 5 VDD5 (power), 6 AI (in), 7 AO (out), 8 PWM1 (in), 9 PWM2 (in), 10 BS2 (power), 11 SW2 (out), 12 SW1 (out), 13 BS1 (power), 14 NC., 15 CSO (out), 16 VHV (power), 17 VHV (power), 18 NC.

## CH274K
designator U?
12V Full-Bridge Power Stage for Wireless Power Transmitter
footprint ESSOP10 (Footprint not found)
pins: 0 (power), 1 VHV (power), 2 BS1 (power), 3 SW1 (out), 4 SW2 (out), 5 BS2 (power), 6 PWM2 (in), 7 PWM1 (in), 8 VDD33 (power), 9 VDD5 (power), 10 CSO (out)
text: GND

## CH311L
designator U?
PC debug port monitor, 4 Digits * 8 Segments, PCI
footprint LQFP64
pins: 1 AD19 (io), 2 VCC (power), 3 GND (power), 4 AD18 (io), 5 AD17 (io), 6 AD16 (io), 7 CBE2 (in), 8 FRAM (in), 9 TRDY (hiz), 10 DEVS (hiz), 11 PAR (hiz), 12 CBE1 (in), 13 AD15 (io), 14 AD14 (io), 15 GND (power), 16 VCC (power), 17 AD13 (io), 18 AD12 (io), 19 AD11 (io), 20 AD10 (io), 21 AD9 (io), 22 AD8 (io), 23 CBE0 (in), 24 AD7 (io), 25 AD6 (io), 26 AD5 (io), 27 AD4 (io), 28 AD3 (io), 29 AD2 (io), 30 AD1 (io), 31 AD0 (io), 32 DIG0 (out), 33 KEY (in), 34 VCC (power), 35 GND (power), 36 DIG1 (out), 37 DIG2 (out), 38 DIG3 (out), 39 SEG0 (out), 40 SEG1 (out), 41 SEG2 (out), 42 SEG3 (out), 43 SEG4 (out), 44 SEG5 (out), 45 SEG6 (out), 46 SEG7 (out), 47 VCC (power), 48 GND (power), 49 NRST (in), 50 CLK (in), 51 AD31 (io), 52 AD30 (io), 53 AD29 (io), 54 AD28 (io), 55 AD27 (io), 56 AD26 (io), 57 AD25 (io), 58 AD24 (io), 59 CBE3 (in), 60 IDSL (in), 61 AD23 (io), 62 AD22 (io), 63 AD21 (io), 64 AD20 (io)

## CH311Q
designator U?
PC debug port monitor, 2 Digits * 8 Segments, PCI & ISA & LPT
footprint LQFP44
pins: 1 FRAM/MR (in), 2 STOP (hiz), 3 DEVS (hiz), 4 TRDY (hiz), 5 CBE1 (in), 6 AD15/IOW (in), 7 AD14/A9 (in), 8 AD13/A8 (in), 9 AD12/A6 (in), 10 AD11/A5 (in), 11 AD10/A4 (in), 12 AD9/A3 (in), 13 AD8/A2/AEN (in), 14 CBE0 (in), 15 AD7/D7 (in), 16 AD6/D6 (in), 17 AD5/D5 (in), 18 AD4/D4 (in), 19 AD3/D3 (in), 20 AD2/D2 (in), 21 AD1/D1 (in), 22 AD0/D0 (in), 23 PAUS# (in), 24 ISARST/STB (in), 25 SEG7 (out), 26 SEG6 (out), 27 SEG5 (out), 28 SEG4 (out), 29 SEG3 (out), 30 SEG2 (out), 31 SEG1 (out), 32 SEG0 (out), 33 GND (power), 34 VCC (power), 35 L4B# (out), 36 H4B# (out), 37 PCIRST/INIT (in), 38 CLK (in), 39 AD31 (in), 40 CBE3 (in), 41 IDSEL/A7 (in), 42 VCC (power), 43 GND (power), 44 CBE2 (in)

## CH313K
designator U?
USB transfer detection
footprint SOT-363
pins: 1 GND (in), 2 GND (power), 3 OUT (out), 4 D+ (in), 5 VDD (power), 6 D- (in)
2 alternate drawings of the same symbol

## CH314H
designator U?
USB device charger, 4 host ports
footprint SOP20
pins: 1 U2+ (io), 2 U2- (io), 3 GND (power), 4 V3 (power), 5 U1+ (io), 6 U1- (io), 7 U0+ (io), 8 U0- (io), 9 U3+ (io), 10 U3- (io), 11 XI (in), 12 XO (out), 13 VCC (power), 14 EN0 (in), 15 EN1 (in), 16 LED3# (out), 17 LED2# (out), 18 LED1# (out), 19 LED0# (out), 20 GND (power)

## CH314S
designator U?
USB device charger, 6 host ports
footprint SOP24
pins: 1 U1+ (io), 2 U1- (io), 3 U0+ (io), 4 U0- (io), 5 GND (power), 6 XI (in), 7 XO (out), 8 U5+ (io), 9 U5- (io), 10 GND (power), 11 VCC (power), 12 V3 (power), 13 U4+ (io), 14 U4- (io), 15 U3+ (io), 16 U3- (io), 17 GND (power), 18 NC., 19 NC., 20 U2+ (io), 21 U2- (io), 22 GND (power), 23 VCC (power), 24 V3 (power)

## CH315D
designator U?
USB lengthen wire controller, Full-Speed & Low-Speed
footprint QFN20_3X3 (Footprint not found)
pins: 0 GND (power), 1 NC., 2 GND (power), 3 UP# (in), 4 UD+ (io), 5 UD- (io), 6 VCC (power), 7 GND (power), 8 V3 (power), 9 REF (power), 10 GND (power), 11 VCC (power), 12 XD- (io), 13 XD+ (io), 14 GND (power), 15 NC., 16 NC., 17 NC., 18 NC., 19 NC., 20 NC.

## CH315G
designator U?
USB lengthen wire controller, Full-Speed & Low-Speed
footprint SOP14
pins: 1 REF (power), 2 GND (power), 3 VCC (power), 4 XD- (io), 5 XD+ (io), 6 GND (power), 7 NC., 8 NC., 9 VCC (power), 10 UP# (in), 11 NC., 12 UD- (io), 13 UD+ (io), 14 V3 (power)

## CH317L
designator U?
High-Speed USB lengthen wire controller for longer distance
footprint LQFP48
pins: 1 OUT0 (out), 2 OUT1 (out), 3 OUT2 (out), 4 LED# (out), 5 CKO12M (out), 6 RSTI# (in), 7 IN0 (in), 8 IN1 (in), 9 IN2 (in), 10 MDCK (out), 11 NC., 12 MDIO (io), 13 RSTO# (out), 14 CK125M (in), 15 VDD33AUX (power), 16 NC., 17 VDD33 (power), 18 GND (power), 19 VDDCORE (power), 20 NC., 21 RXCK (in), 22 RXDV (in), 23 RXD0 (in), 24 RXD1 (in), 25 RXD2 (in), 26 RXD3 (in), 27 VDDRGMII (power), 28 TXCK (out), 29 NC., 30 TXEN (out), 31 TXD0 (out), 32 TXD1 (out), 33 TXD2 (out), 34 TXD3 (out), 35 VDDCORE (power), 36 R12K (io), 37 UD+ (io), 38 UD- (io), 39 VDD33USB (power), 40 XO (io), 41 XI (in), 42 NC., 43 NC., 44 NC., 45 NC., 46 VDD33IO (power), 47 GND (power), 48 VDDCORE (power)

## CH330N
designator U?
USB to TTL Serial / UART
footprint SOP8
pins: 1 UD+ (io), 2 UD- (io), 3 GND (power), 4 RTS# (out), 5 VCC (power), 6 TXD (out), 7 RXD (in), 8 V3 (power)

## CH331A
designator U?
Mini USB Disk Controller for serial EEPROM or Flash
footprint SSOP20
pins: 1 SOUT (out), 2 SCLK (out), 3 NC., 4 RDY (in), 5 WP# (in), 6 V3 (power), 7 UD+ (io), 8 UD- (io), 9 GND (power), 10 XI (in), 11 XO (out), 12 VCC (power), 13 ID1 (in), 14 SIN (in), 15 H4L2 (in), 16 SDA (io), 17 SCL (out), 18 CS# (out), 19 ID0 (in), 20 LED# (out)

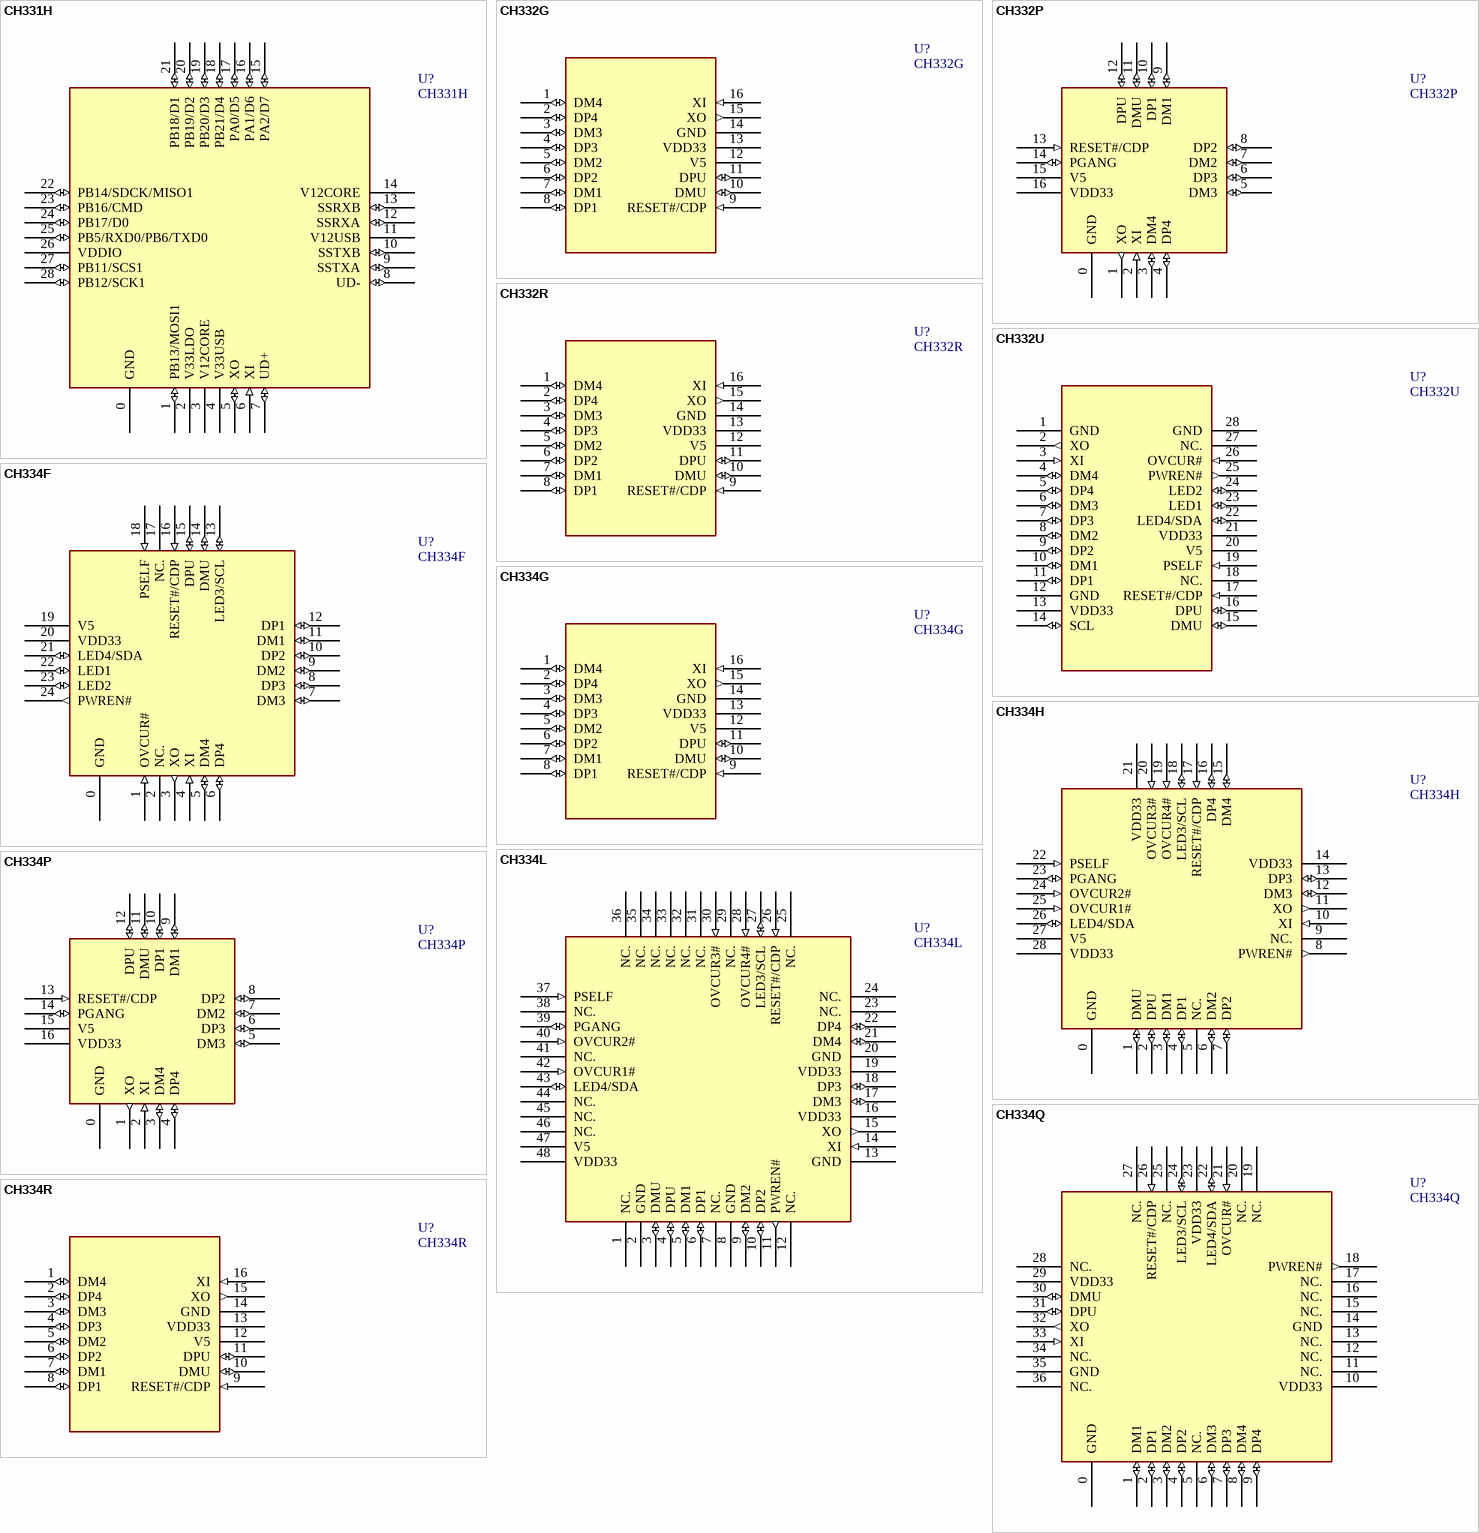
[diagram p13: symbols CH331H to CH334R]

## CH331H
designator U?
RISC-V USB 3.0 Disk Controller with AES/SM4
footprint QFN28_5X5
pins: 0 GND (power), 1 PB13/MOSI1 (io), 2 V33LDO (power), 3 V12CORE (power), 4 V33USB (power), 5 XO (io), 6 XI (in), 7 UD+ (io), 8 UD- (io), 9 SSTXA (io), 10 SSTXB (io), 11 V12USB (power), 12 SSRXA (io), 13 SSRXB (io), 14 V12CORE (power), 15 PA2/D7 (io), 16 PA1/D6 (io), 17 PA0/D5 (io), 18 PB21/D4 (io), 19 PB20/D3 (io), 20 PB19/D2 (io), 21 PB18/D1 (io), 22 PB14/SDCK/MISO1 (io), 23 PB16/CMD (io), 24 PB17/D0 (io), 25 PB5/RXD0/PB6/TXD0 (io), 26 VDDIO (power), 27 PB11/SCS1 (io), 28 PB12/SCK1 (io)
2 alternate drawings of the same symbol

## CH332G
designator U?
4 ports High-Speed USB STT Hub
footprint SOP16 (Footprint not found)
pins: 1 DM4 (io), 2 DP4 (io), 3 DM3 (io), 4 DP3 (io), 5 DM2 (io), 6 DP2 (io), 7 DM1 (io), 8 DP1 (io), 9 RESET#/CDP (in), 10 DMU (io), 11 DPU (io), 12 V5 (power), 13 VDD33 (power), 14 GND (power), 15 XO (out), 16 XI (in)
2 alternate drawings of the same symbol

## CH332P
designator U?
4 ports High-Speed USB STT Hub
footprint QFN16_3X3 (Footprint not found)
pins: 0 GND (power), 1 XO (out), 2 XI (in), 3 DM4 (io), 4 DP4 (io), 5 DM3 (io), 6 DP3 (io), 7 DM2 (io), 8 DP2 (io), 9 DM1 (io), 10 DP1 (io), 11 DMU (io), 12 DPU (io), 13 RESET#/CDP (in), 14 PGANG (io), 15 V5 (power), 16 VDD33 (power)
2 alternate drawings of the same symbol

## CH332R
designator U?
4 ports High-Speed USB STT Hub
footprint QSOP16 (Footprint not found)
pins: 1 DM4 (io), 2 DP4 (io), 3 DM3 (io), 4 DP3 (io), 5 DM2 (io), 6 DP2 (io), 7 DM1 (io), 8 DP1 (io), 9 RESET#/CDP (in), 10 DMU (io), 11 DPU (io), 12 V5 (power), 13 VDD33 (power), 14 GND (power), 15 XO (out), 16 XI (in)
2 alternate drawings of the same symbol

## CH332U
designator U?
4 ports High-Speed USB STT Hub with over current detect & power control
footprint QSOP28 (Footprint not found)
pins: 1 GND (power), 2 XO (out), 3 XI (in), 4 DM4 (io), 5 DP4 (io), 6 DM3 (io), 7 DP3 (io), 8 DM2 (io), 9 DP2 (io), 10 DM1 (io), 11 DP1 (io), 12 GND (power), 13 VDD33 (power), 14 SCL (io), 15 DMU (io), 16 DPU (io), 17 RESET#/CDP (in), 18 NC., 19 PSELF (in), 20 V5 (power), 21 VDD33 (power), 22 LED4/SDA (io), 23 LED1 (io), 24 LED2 (io), 25 PWREN# (out), 26 OVCUR# (in), 27 NC., 28 GND (power)
2 alternate drawings of the same symbol

## CH334F
designator U?
4 ports High-Speed USB MTT Hub with over current detect & power control
footprint QFN24_4X4 (Footprint not found)
pins: 0 GND (power), 1 OVCUR# (in), 2 NC., 3 XO (out), 4 XI (in), 5 DM4 (io), 6 DP4 (io), 7 DM3 (io), 8 DP3 (io), 9 DM2 (io), 10 DP2 (io), 11 DM1 (io), 12 DP1 (io), 13 LED3/SCL (io), 14 DMU (io), 15 DPU (io), 16 RESET#/CDP (in), 17 NC., 18 PSELF (in), 19 V5 (power), 20 VDD33 (power), 21 LED4/SDA (io), 22 LED1 (io), 23 LED2 (io), 24 PWREN# (out)
2 alternate drawings of the same symbol

## CH334G
designator U?
4 ports High-Speed USB STT Hub
footprint SOP16 (Footprint not found)
pins: 1 DM4 (io), 2 DP4 (io), 3 DM3 (io), 4 DP3 (io), 5 DM2 (io), 6 DP2 (io), 7 DM1 (io), 8 DP1 (io), 9 RESET#/CDP (in), 10 DMU (io), 11 DPU (io), 12 V5 (power), 13 VDD33 (power), 14 GND (power), 15 XO (out), 16 XI (in)
2 alternate drawings of the same symbol

## CH334H
designator U?
4 ports High-Speed USB MTT Hub with 4 over current detect
footprint QFN28_5X5 (Footprint not found)
pins: 0 GND (power), 1 DMU (io), 2 DPU (io), 3 DM1 (io), 4 DP1 (io), 5 NC., 6 DM2 (io), 7 DP2 (io), 8 PWREN# (out), 9 NC., 10 XI (in), 11 XO (out), 12 DM3 (io), 13 DP3 (io), 14 VDD33 (power), 15 DM4 (io), 16 DP4 (io), 17 RESET#/CDP (in), 18 LED3/SCL (io), 19 OVCUR4# (in), 20 OVCUR3# (in), 21 VDD33 (power), 22 PSELF (in), 23 PGANG (io), 24 OVCUR2# (in), 25 OVCUR1# (in), 26 LED4/SDA (io), 27 V5 (power), 28 VDD33 (power)
2 alternate drawings of the same symbol

## CH334L
designator U?
4 ports High-Speed USB MTT Hub with 4 over current detect
footprint LQFP48 (Footprint not found)
pins: 1 NC., 2 GND (power), 3 DMU (io), 4 DPU (io), 5 DM1 (io), 6 DP1 (io), 7 NC., 8 GND (power), 9 DM2 (io), 10 DP2 (io), 11 PWREN# (out), 12 NC., 13 GND (power), 14 XI (in), 15 XO (out), 16 VDD33 (power), 17 DM3 (io), 18 DP3 (io), 19 VDD33 (power), 20 GND (power), 21 DM4 (io), 22 DP4 (io), 23 NC., 24 NC., 25 NC., 26 RESET#/CDP (in), 27 LED3/SCL (io), 28 OVCUR4# (in), 29 NC., 30 OVCUR3# (in), 31 NC., 32 NC., 33 NC., 34 NC., 35 NC., 36 NC., 37 PSELF (in), 38 NC., 39 PGANG (io), 40 OVCUR2# (in), 41 NC., 42 OVCUR1# (in), 43 LED4/SDA (io), 44 NC., 45 NC., 46 NC., 47 V5 (power), 48 VDD33 (power)
2 alternate drawings of the same symbol

## CH334P
designator U?
4 ports High-Speed USB MTT Hub
footprint QFN16_3X3 (Footprint not found)
pins: 0 GND (power), 1 XO (out), 2 XI (in), 3 DM4 (io), 4 DP4 (io), 5 DM3 (io), 6 DP3 (io), 7 DM2 (io), 8 DP2 (io), 9 DM1 (io), 10 DP1 (io), 11 DMU (io), 12 DPU (io), 13 RESET#/CDP (in), 14 PGANG (io), 15 V5 (power), 16 VDD33 (power)
2 alternate drawings of the same symbol

## CH334Q
designator U?
4 ports High-Speed USB MTT Hub with over current detect & power control
footprint QFN36_6x6
pins: 0 GND (power), 1 DM1 (io), 2 DP1 (io), 3 DM2 (io), 4 DP2 (io), 5 NC., 6 DM3 (io), 7 DP3 (io), 8 DM4 (io), 9 DP4 (io), 10 VDD33 (power), 11 NC., 12 NC., 13 NC., 14 GND (power), 15 NC., 16 NC., 17 NC., 18 PWREN# (out), 19 NC., 20 NC., 21 OVCUR# (in), 22 LED4/SDA (io), 23 VDD33 (power), 24 LED3/SCL (io), 25 NC., 26 RESET#/CDP (in), 27 NC., 28 NC., 29 VDD33 (power), 30 DMU (io), 31 DPU (io), 32 XO (out), 33 XI (in), 34 NC., 35 GND (power), 36 NC.
2 alternate drawings of the same symbol

## CH334R
designator U?
4 ports High-Speed USB MTT Hub
footprint QSOP16 (Footprint not found)
pins: 1 DM4 (io), 2 DP4 (io), 3 DM3 (io), 4 DP3 (io), 5 DM2 (io), 6 DP2 (io), 7 DM1 (io), 8 DP1 (io), 9 RESET#/CDP (in), 10 DMU (io), 11 DPU (io), 12 V5 (power), 13 VDD33 (power), 14 GND (power), 15 XO (out), 16 XI (in)
2 alternate drawings of the same symbol

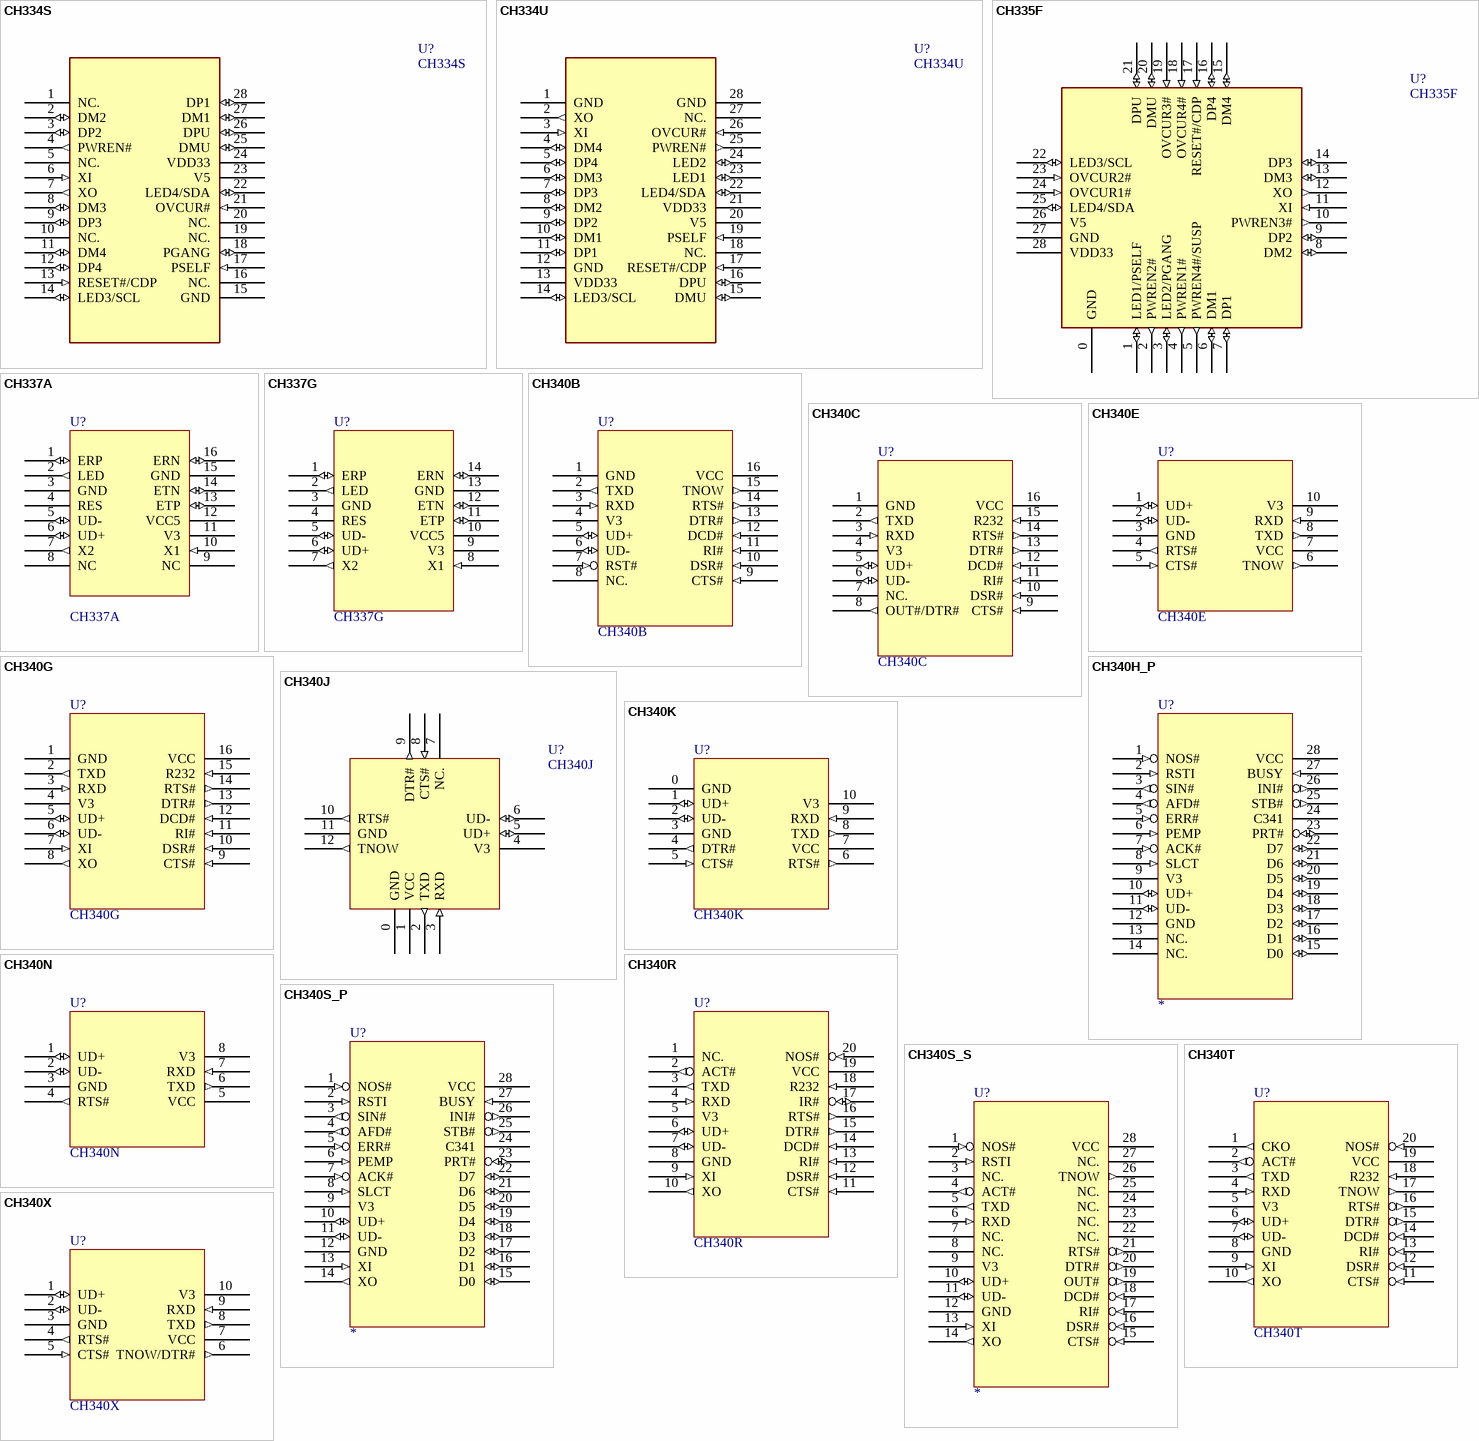
[diagram p14: symbols CH334S to CH340X]

## CH334S
designator U?
4 ports High-Speed USB MTT Hub with over current detect & power control
footprint SSOP28 (Footprint not found)
pins: 1 NC., 2 DM2 (io), 3 DP2 (io), 4 PWREN# (out), 5 NC., 6 XI (in), 7 XO (out), 8 DM3 (io), 9 DP3 (io), 10 NC., 11 DM4 (io), 12 DP4 (io), 13 RESET#/CDP (in), 14 LED3/SCL (io), 15 GND (power), 16 NC., 17 PSELF (in), 18 PGANG (io), 19 NC., 20 NC., 21 OVCUR# (in), 22 LED4/SDA (io), 23 V5 (power), 24 VDD33 (power), 25 DMU (io), 26 DPU (io), 27 DM1 (io), 28 DP1 (io)
2 alternate drawings of the same symbol

## CH334U
designator U?
4 ports High-Speed USB MTT Hub with over current detect & power control
footprint QSOP28 (Footprint not found)
pins: 1 GND (power), 2 XO (out), 3 XI (in), 4 DM4 (io), 5 DP4 (io), 6 DM3 (io), 7 DP3 (io), 8 DM2 (io), 9 DP2 (io), 10 DM1 (io), 11 DP1 (io), 12 GND (power), 13 VDD33 (power), 14 LED3/SCL (io), 15 DMU (io), 16 DPU (io), 17 RESET#/CDP (in), 18 NC., 19 PSELF (in), 20 V5 (power), 21 VDD33 (power), 22 LED4/SDA (io), 23 LED1 (io), 24 LED2 (io), 25 PWREN# (out), 26 OVCUR# (in), 27 NC., 28 GND (power)
2 alternate drawings of the same symbol

## CH335F
designator U?
4 ports High-Speed USB MTT Hub with 4 over current detect & power control
footprint QFN28_4X4 (Footprint not found)
pins: 0 GND (power), 1 LED1/PSELF (io), 2 PWREN2# (out), 3 LED2/PGANG (io), 4 PWREN1# (out), 5 PWREN4#/SUSP (out), 6 DM1 (io), 7 DP1 (io), 8 DM2 (io), 9 DP2 (io), 10 PWREN3# (out), 11 XI (in), 12 XO (out), 13 DM3 (io), 14 DP3 (io), 15 DM4 (io), 16 DP4 (io), 17 RESET#/CDP (in), 18 OVCUR4# (in), 19 OVCUR3# (in), 20 DMU (io), 21 DPU (io), 22 LED3/SCL (io), 23 OVCUR2# (in), 24 OVCUR1# (in), 25 LED4/SDA (io), 26 V5 (power), 27 GND (power), 28 VDD33 (power)
2 alternate drawings of the same symbol

## CH337A
designator U?
USB to 10Mbps Ethernet
footprint SOP16
pins: 1 ERP (io), 2 LED (out), 3 GND (power), 4 RES, 5 UD- (io), 6 UD+ (io), 7 X2 (out), 8 NC, 9 NC, 10 X1 (in), 11 V3 (power), 12 VCC5 (power), 13 ETP (io), 14 ETN (io), 15 GND (power), 16 ERN (io)

## CH337G
designator U?
USB to 10Mbps Ethernet
footprint SOP14
pins: 1 ERP (io), 2 LED (out), 3 GND (power), 4 RES, 5 UD- (io), 6 UD+ (io), 7 X2 (out), 8 X1 (in), 9 V3 (power), 10 VCC5 (power), 11 ETP (io), 12 ETN (io), 13 GND (power), 14 ERN (io)

## CH340B
designator U?
USB to TTL Serial / UART, Integrated clock
footprint SOP16
pins: 1 GND (power), 2 TXD (out), 3 RXD (in), 4 V3 (power), 5 UD+ (io), 6 UD- (io), 7 RST# (in), 8 NC., 9 CTS# (in), 10 DSR# (in), 11 RI# (in), 12 DCD# (in), 13 DTR# (out), 14 RTS# (out), 15 TNOW (out), 16 VCC (power)

## CH340C
designator U?
USB to TTL Serial / UART
footprint SOP16
pins: 1 GND (power), 2 TXD (out), 3 RXD (in), 4 V3 (power), 5 UD+ (io), 6 UD- (io), 7 NC., 8 OUT#/DTR# (out), 9 CTS# (in), 10 DSR# (in), 11 RI# (in), 12 DCD# (in), 13 DTR# (out), 14 RTS# (out), 15 R232 (in), 16 VCC (power)

## CH340E
designator U?
USB to TTL Serial / UART
footprint MSOP10
pins: 1 UD+ (io), 2 UD- (io), 3 GND (power), 4 RTS# (out), 5 CTS# (in), 6 TNOW (out), 7 VCC (power), 8 TXD (out), 9 RXD (in), 10 V3 (power)

## CH340G
designator U?
USB to TTL Serial / UART
footprint SOP16
pins: 1 GND (power), 2 TXD (out), 3 RXD (in), 4 V3 (power), 5 UD+ (io), 6 UD- (io), 7 XI (in), 8 XO (out), 9 CTS# (in), 10 DSR# (in), 11 RI# (in), 12 DCD# (in), 13 DTR# (out), 14 RTS# (out), 15 R232 (in), 16 VCC (power)

## CH340H_P
designator U?
USB to Print Port / Parallel
footprint SOP28
footprint DIP28
pins: 1 NOS# (in), 2 RSTI (in), 3 SIN# (out), 4 AFD# (out), 5 ERR# (in), 6 PEMP (in), 7 ACK# (in), 8 SLCT (in), 9 V3 (power), 10 UD+ (io), 11 UD- (io), 12 GND (power), 13 NC., 14 NC., 15 D0 (io), 16 D1 (io), 17 D2 (io), 18 D3 (io), 19 D4 (io), 20 D5 (io), 21 D6 (io), 22 D7 (io), 23 PRT# (io), 24 C341, 25 STB# (out), 26 INI# (out), 27 BUSY (in), 28 VCC (power)

## CH340J
designator U?
USB to TTL Serial / UART
footprint QFN12_2X2
pins: 0 GND (power), 1 VCC (power), 2 TXD (out), 3 RXD (in), 4 V3 (power), 5 UD+ (io), 6 UD- (io), 7 NC., 8 CTS# (in), 9 DTR# (out), 10 RTS# (out), 11 GND (power), 12 TNOW (out)

## CH340K
designator U?
USB to TTL Serial / UART for dual power
footprint ESSOP10
pins: 0 GND (power), 1 UD+ (io), 2 UD- (io), 3 GND (power), 4 DTR# (out), 5 CTS# (in), 6 RTS# (out), 7 VCC (power), 8 TXD (out), 9 RXD (in), 10 V3 (power)

## CH340N
designator U?
USB to TTL Serial / UART
footprint SOP8
pins: 1 UD+ (io), 2 UD- (io), 3 GND (power), 4 RTS# (out), 5 VCC (power), 6 TXD (out), 7 RXD (in), 8 V3 (power)

## CH340R
designator U?
USB to IrDA, USB to RS232 Serial
footprint SSOP20
pins: 1 NC., 2 ACT# (out), 3 TXD (out), 4 RXD (in), 5 V3 (power), 6 UD+ (io), 7 UD- (io), 8 GND (power), 9 XI (in), 10 XO (out), 11 CTS# (in), 12 DSR# (in), 13 RI# (in), 14 DCD# (in), 15 DTR# (out), 16 RTS# (out), 17 IR# (io), 18 R232 (in), 19 VCC (power), 20 NOS# (in)

## CH340S_P
designator U?
USB to Print Port / Parallel
footprint SOP28
footprint DIP28
pins: 1 NOS# (in), 2 RSTI (in), 3 SIN# (out), 4 AFD# (out), 5 ERR# (in), 6 PEMP (in), 7 ACK# (in), 8 SLCT (in), 9 V3 (power), 10 UD+ (io), 11 UD- (io), 12 GND (power), 13 XI (in), 14 XO (out), 15 D0 (io), 16 D1 (io), 17 D2 (io), 18 D3 (io), 19 D4 (io), 20 D5 (io), 21 D6 (io), 22 D7 (io), 23 PRT# (io), 24 C341, 25 STB# (out), 26 INI# (out), 27 BUSY (in), 28 VCC (power)

## CH340S_S
designator U?
USB to TTL Serial / UART, pin compatible with CH341
footprint SOP28
footprint DIP28
pins: 1 NOS# (in), 2 RSTI (in), 3 NC., 4 ACT# (out), 5 TXD (out), 6 RXD (in), 7 NC., 8 NC., 9 V3 (power), 10 UD+ (io), 11 UD- (io), 12 GND (power), 13 XI (in), 14 XO (out), 15 CTS# (in), 16 DSR# (in), 17 RI# (in), 18 DCD# (in), 19 OUT# (out), 20 DTR# (out), 21 RTS# (out), 22 NC., 23 NC., 24 NC., 25 NC., 26 TNOW (out), 27 NC., 28 VCC (power)

## CH340T
designator U?
USB to TTL Serial / UART,  USB to IrDA
footprint SSOP20
pins: 1 CKO (out), 2 ACT# (out), 3 TXD (out), 4 RXD (in), 5 V3 (power), 6 UD+ (io), 7 UD- (io), 8 GND (power), 9 XI (in), 10 XO (out), 11 CTS# (in), 12 DSR# (in), 13 RI# (in), 14 DCD# (in), 15 DTR# (out), 16 RTS# (out), 17 TNOW (out), 18 R232 (in), 19 VCC (power), 20 NOS# (in)

## CH340X
designator U?
USB to TTL Serial / UART
footprint MSOP10
pins: 1 UD+ (io), 2 UD- (io), 3 GND (power), 4 RTS# (out), 5 CTS# (in), 6 TNOW/DTR# (out), 7 VCC (power), 8 TXD (out), 9 RXD (in), 10 V3 (power)

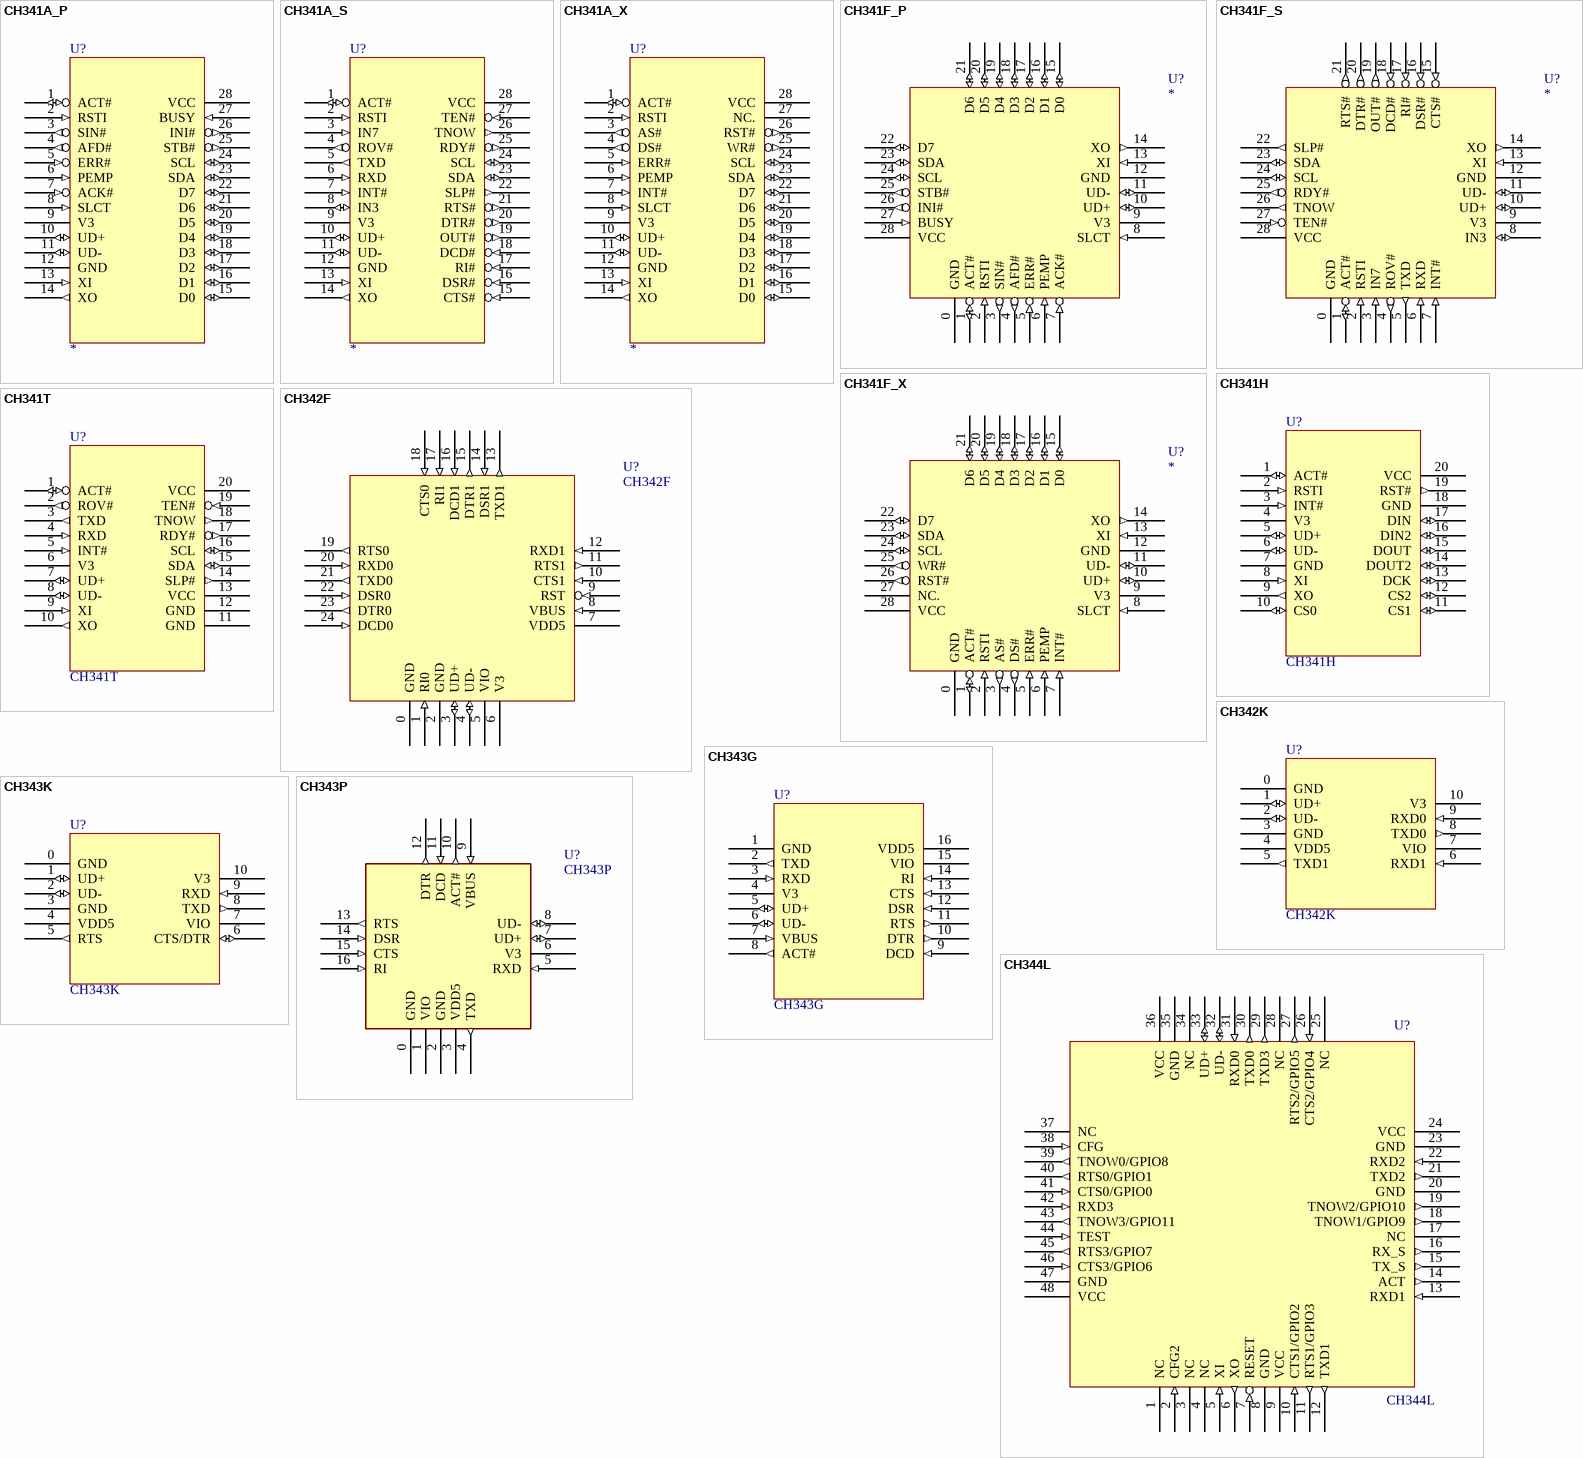
[diagram p15: symbols CH341A_P to CH344L]

## CH341A_P
designator U?
USB to Print Port / Parallel
footprint SOP28
footprint TSSOP28
footprint DIP28
pins: 1 ACT# (io), 2 RSTI (in), 3 SIN# (out), 4 AFD# (out), 5 ERR# (in), 6 PEMP (in), 7 ACK# (in), 8 SLCT (in), 9 V3 (power), 10 UD+ (io), 11 UD- (io), 12 GND (power), 13 XI (in), 14 XO (out), 15 D0 (io), 16 D1 (io), 17 D2 (io), 18 D3 (io), 19 D4 (io), 20 D5 (io), 21 D6 (io), 22 D7 (io), 23 SDA (io), 24 SCL (io), 25 STB# (out), 26 INI# (out), 27 BUSY (in), 28 VCC (power)

## CH341A_S
designator U?
USB to TTL Serial / UART / I2C/IIC
footprint SOP28
footprint TSSOP28
footprint DIP28
pins: 1 ACT# (io), 2 RSTI (in), 3 IN7 (in), 4 ROV# (out), 5 TXD (out), 6 RXD (in), 7 INT# (in), 8 IN3 (io), 9 V3 (power), 10 UD+ (io), 11 UD- (io), 12 GND (power), 13 XI (in), 14 XO (out), 15 CTS# (in), 16 DSR# (in), 17 RI# (in), 18 DCD# (in), 19 OUT# (out), 20 DTR# (out), 21 RTS# (out), 22 SLP# (out), 23 SDA (io), 24 SCL (io), 25 RDY# (out), 26 TNOW (out), 27 TEN# (in), 28 VCC (power)

## CH341A_X
designator U?
USB to EPP Parallel / SPI / I2C/IIC
footprint SOP28
footprint TSSOP28
footprint DIP28
pins: 1 ACT# (io), 2 RSTI (in), 3 AS# (out), 4 DS# (out), 5 ERR# (in), 6 PEMP (in), 7 INT# (in), 8 SLCT (in), 9 V3 (power), 10 UD+ (io), 11 UD- (io), 12 GND (power), 13 XI (in), 14 XO (out), 15 D0 (io), 16 D1 (io), 17 D2 (io), 18 D3 (io), 19 D4 (io), 20 D5 (io), 21 D6 (io), 22 D7 (io), 23 SDA (io), 24 SCL (io), 25 WR# (out), 26 RST# (out), 27 NC., 28 VCC (power)

## CH341F_P
designator U?
USB to Print Port / Parallel
footprint QFN28_4X4
footprint DIP28
pins: 0 GND (power), 1 ACT# (io), 2 RSTI (in), 3 SIN# (out), 4 AFD# (out), 5 ERR# (in), 6 PEMP (in), 7 ACK# (in), 8 SLCT (in), 9 V3 (power), 10 UD+ (io), 11 UD- (io), 12 GND (power), 13 XI (in), 14 XO (out), 15 D0 (io), 16 D1 (io), 17 D2 (io), 18 D3 (io), 19 D4 (io), 20 D5 (io), 21 D6 (io), 22 D7 (io), 23 SDA (io), 24 SCL (io), 25 STB# (out), 26 INI# (out), 27 BUSY (in), 28 VCC (power)

## CH341F_S
designator U?
USB to TTL Serial / UART / I2C/IIC
footprint QFN28_4X4
footprint DIP28
pins: 0 GND (power), 1 ACT# (io), 2 RSTI (in), 3 IN7 (in), 4 ROV# (out), 5 TXD (out), 6 RXD (in), 7 INT# (in), 8 IN3 (io), 9 V3 (power), 10 UD+ (io), 11 UD- (io), 12 GND (power), 13 XI (in), 14 XO (out), 15 CTS# (in), 16 DSR# (in), 17 RI# (in), 18 DCD# (in), 19 OUT# (out), 20 DTR# (out), 21 RTS# (out), 22 SLP# (out), 23 SDA (io), 24 SCL (io), 25 RDY# (out), 26 TNOW (out), 27 TEN# (in), 28 VCC (power)

## CH341F_X
designator U?
USB to EPP Parallel / SPI / I2C/IIC
footprint QFN28_4X4
footprint DIP28
pins: 0 GND (power), 1 ACT# (io), 2 RSTI (in), 3 AS# (out), 4 DS# (out), 5 ERR# (in), 6 PEMP (in), 7 INT# (in), 8 SLCT (in), 9 V3 (power), 10 UD+ (io), 11 UD- (io), 12 GND (power), 13 XI (in), 14 XO (out), 15 D0 (io), 16 D1 (io), 17 D2 (io), 18 D3 (io), 19 D4 (io), 20 D5 (io), 21 D6 (io), 22 D7 (io), 23 SDA (io), 24 SCL (io), 25 WR# (out), 26 RST# (out), 27 NC., 28 VCC (power)

## CH341H
designator U?
USB to SPI
footprint SSOP20
pins: 1 ACT# (io), 2 RSTI (in), 3 INT# (in), 4 V3 (power), 5 UD+ (io), 6 UD- (io), 7 GND (power), 8 XI (in), 9 XO (out), 10 CS0 (io), 11 CS1 (io), 12 CS2 (io), 13 DCK (io), 14 DOUT2 (io), 15 DOUT (io), 16 DIN2 (io), 17 DIN (io), 18 GND (power), 19 RST# (out), 20 VCC (power)

## CH341T
designator U?
USB to TTL Serial / UART / I2C/IIC
footprint SSOP20
pins: 1 ACT# (io), 2 ROV# (out), 3 TXD (out), 4 RXD (in), 5 INT# (in), 6 V3 (power), 7 UD+ (io), 8 UD- (io), 9 XI (in), 10 XO (out), 11 GND (power), 12 GND (power), 13 VCC (power), 14 SLP# (out), 15 SDA (io), 16 SCL (io), 17 RDY# (out), 18 TNOW (out), 19 TEN# (in), 20 VCC (power)

## CH342F
designator U?
USB to dual enhanced TTL Serial / 2*UART
footprint QFN24_4X4
pins: 0 GND (power), 1 RI0 (in), 2 GND (power), 3 UD+ (io), 4 UD- (io), 5 VIO (power), 6 V3 (power), 7 VDD5 (power), 8 VBUS (in), 9 RST (in), 10 CTS1 (in), 11 RTS1 (out), 12 RXD1 (in), 13 TXD1 (out), 14 DSR1 (in), 15 DTR1 (out), 16 DCD1 (in), 17 RI1 (in), 18 CTS0 (in), 19 RTS0 (out), 20 RXD0 (in), 21 TXD0 (out), 22 DSR0 (in), 23 DTR0 (out), 24 DCD0 (in)

## CH342K
designator U?
USB to dual enhanced TTL Serial / 2*UART
footprint ESSOP10
pins: 0 GND (power), 1 UD+ (io), 2 UD- (io), 3 GND (power), 4 VDD5 (power), 5 TXD1 (out), 6 RXD1 (in), 7 VIO (power), 8 TXD0 (out), 9 RXD0 (in), 10 V3 (power)

## CH343G
designator U?
USB to high speed enhanced TTL Serial / UART
footprint SOP16
footprint DIP16
pins: 1 GND (power), 2 TXD (out), 3 RXD (in), 4 V3 (power), 5 UD+ (io), 6 UD- (io), 7 VBUS (in), 8 ACT# (out), 9 DCD (in), 10 DTR (out), 11 RTS (out), 12 DSR (in), 13 CTS (in), 14 RI (in), 15 VIO (power), 16 VDD5 (power)

## CH343K
designator U?
USB to high speed enhanced TTL Serial / UART
footprint ESSOP10
pins: 0 GND (power), 1 UD+ (io), 2 UD- (io), 3 GND (power), 4 VDD5 (power), 5 RTS (out), 6 CTS/DTR (io), 7 VIO (power), 8 TXD (out), 9 RXD (in), 10 V3 (power)

## CH343P
designator U?
USB to high speed enhanced TTL Serial / UART
footprint QFN16_3X3 (Footprint not found)
pins: 0 GND (power), 1 VIO (power), 2 GND (power), 3 VDD5 (power), 4 TXD (out), 5 RXD (in), 6 V3 (power), 7 UD+ (io), 8 UD- (io), 9 VBUS (in), 10 ACT# (out), 11 DCD (in), 12 DTR (out), 13 RTS (out), 14 DSR (in), 15 CTS (in), 16 RI (in)

## CH344L
designator U?
USB to quad serial port / 4*UART
footprint LQFP48 (Footprint not found)
pins: 1 NC, 2 CFG2 (in), 3 NC, 4 NC, 5 XI (in), 6 XO (out), 7 RESET (in), 8 GND (power), 9 VCC (power), 10 CTS1/GPIO2 (in), 11 RTS1/GPIO3 (out), 12 TXD1 (out), 13 RXD1 (in), 14 ACT (out), 15 TX_S (out), 16 RX_S (out), 17 NC, 18 TNOW1/GPIO9 (out), 19 TNOW2/GPIO10 (out), 20 GND (power), 21 TXD2 (out), 22 RXD2 (in), 23 GND (power), 24 VCC (power), 25 NC, 26 CTS2/GPIO4 (in), 27 RTS2/GPIO5 (out), 28 NC, 29 TXD3 (out), 30 TXD0 (out), 31 RXD0 (in), 32 UD- (io), 33 UD+ (io), 34 NC, 35 GND (power), 36 VCC (power), 37 NC, 38 CFG (in), 39 TNOW0/GPIO8 (out), 40 RTS0/GPIO1 (out), 41 CTS0/GPIO0 (in), 42 RXD3 (in), 43 TNOW3/GPIO11 (out), 44 TEST (in), 45 RTS3/GPIO7 (out), 46 CTS3/GPIO6 (in), 47 GND (power), 48 VCC (power)

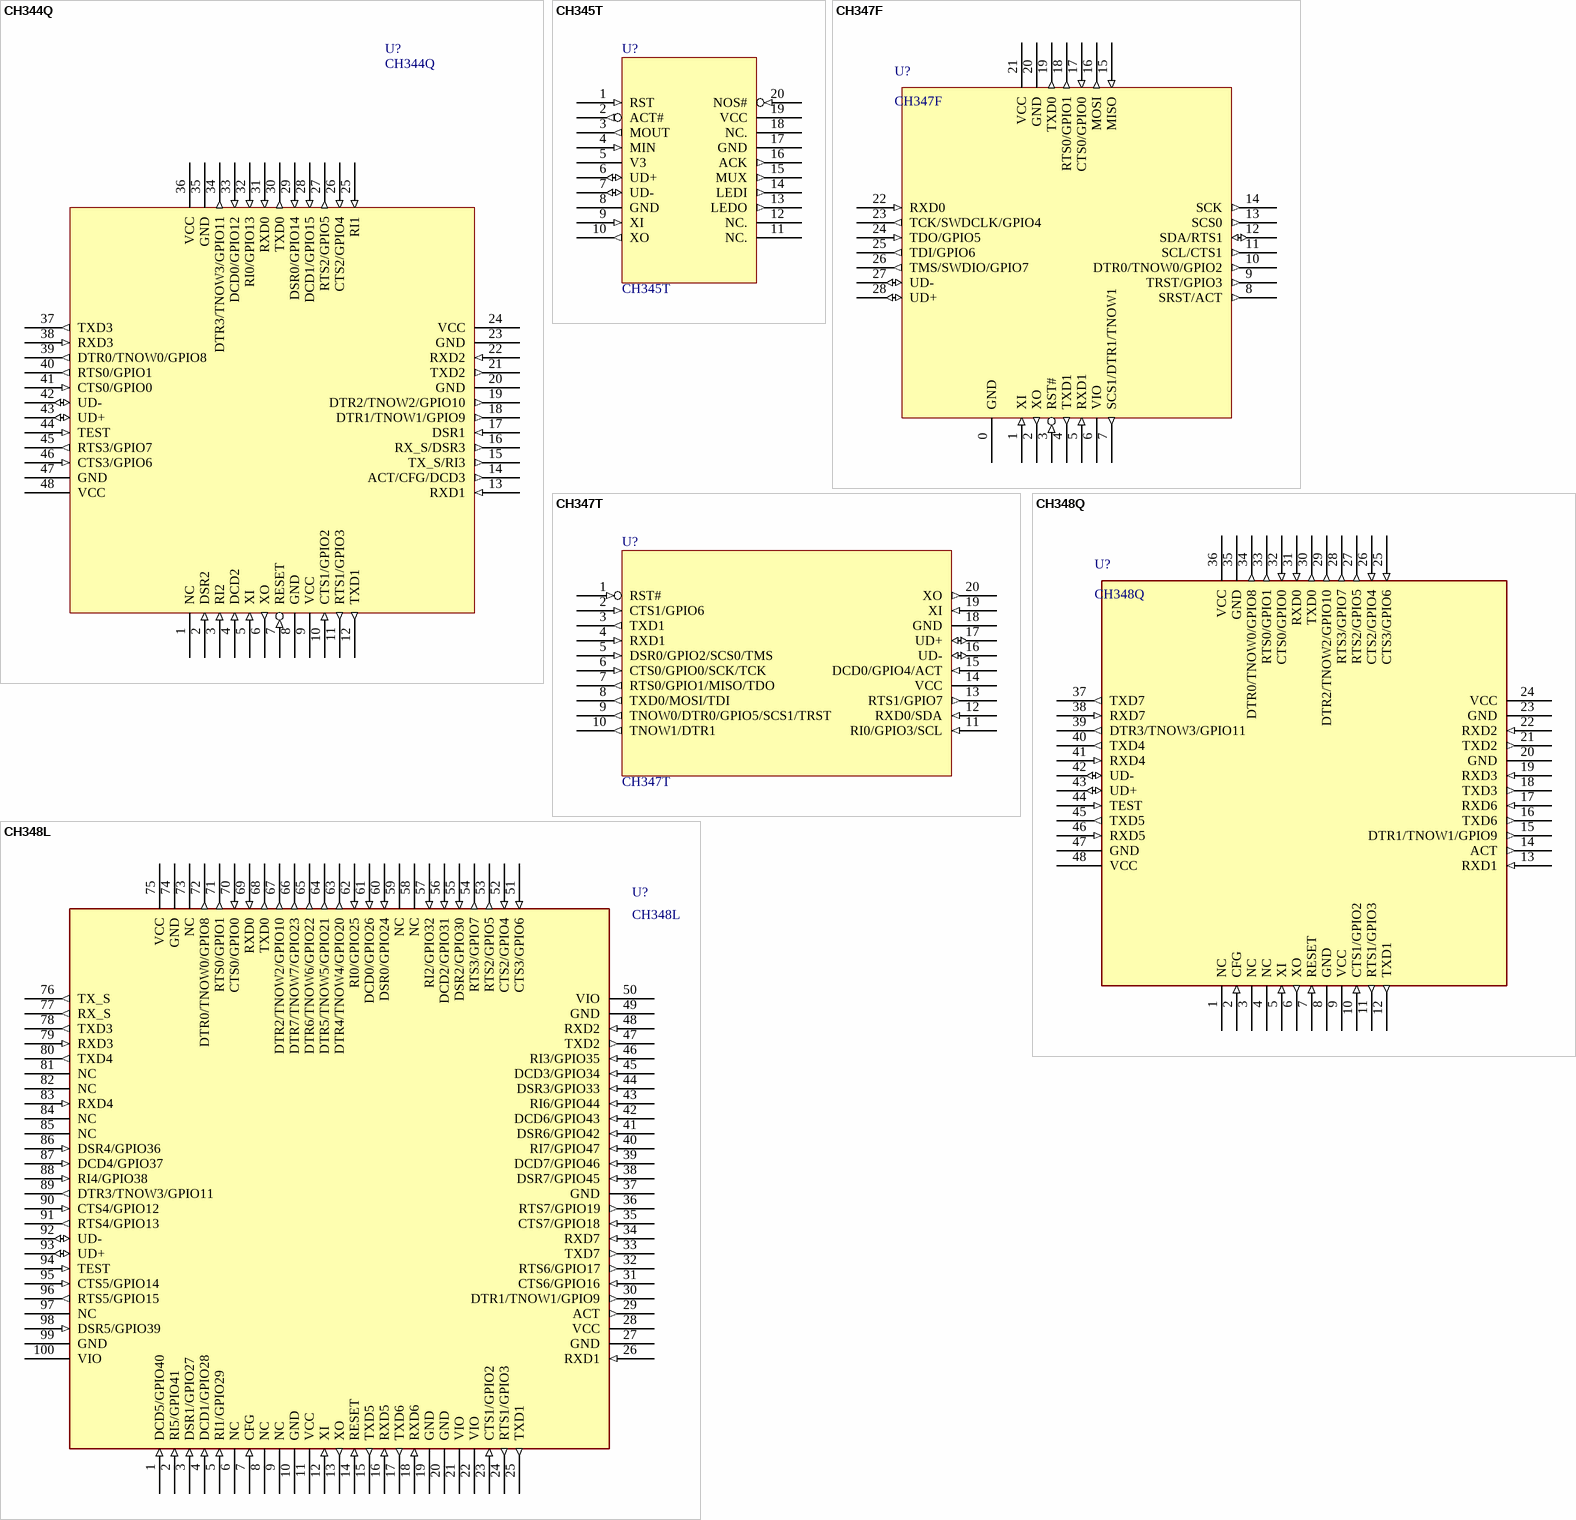
[diagram p16: symbols CH344Q to CH348Q]

## CH344Q
designator U?
High Speed USB to quad serial port / 4*UART
footprint LQFP48 (Footprint not found)
pins: 1 NC, 2 DSR2 (in), 3 RI2 (in), 4 DCD2 (in), 5 XI (in), 6 XO (out), 7 RESET (in), 8 GND (power), 9 VCC (power), 10 CTS1/GPIO2 (in), 11 RTS1/GPIO3 (out), 12 TXD1 (out), 13 RXD1 (in), 14 ACT/CFG/DCD3 (out), 15 TX_S/RI3 (out), 16 RX_S/DSR3 (out), 17 DSR1 (in), 18 DTR1/TNOW1/GPIO9 (out), 19 DTR2/TNOW2/GPIO10 (out), 20 GND (power), 21 TXD2 (out), 22 RXD2 (in), 23 GND (power), 24 VCC (power), 25 RI1 (in), 26 CTS2/GPIO4 (in), 27 RTS2/GPIO5 (out), 28 DCD1/GPIO15 (in), 29 DSR0/GPIO14 (in), 30 TXD0 (out), 31 RXD0 (in), 32 RI0/GPIO13 (in), 33 DCD0/GPIO12 (in), 34 DTR3/TNOW3/GPIO11 (out), 35 GND (power), 36 VCC (power), 37 TXD3 (out), 38 RXD3 (in), 39 DTR0/TNOW0/GPIO8 (out), 40 RTS0/GPIO1 (out), 41 CTS0/GPIO0 (in), 42 UD- (io), 43 UD+ (io), 44 TEST (in), 45 RTS3/GPIO7 (out), 46 CTS3/GPIO6 (in), 47 GND (power), 48 VCC (power)

## CH345T
designator U?
USB to MIDI
footprint SSOP20
pins: 1 RST (in), 2 ACT# (out), 3 MOUT (out), 4 MIN (in), 5 V3 (power), 6 UD+ (io), 7 UD- (io), 8 GND (power), 9 XI (in), 10 XO (out), 11 NC., 12 NC., 13 LEDO (out), 14 LEDI (out), 15 MUX (out), 16 ACK (out), 17 GND (power), 18 NC., 19 VCC (power), 20 NOS# (in)

## CH347F
designator U?
High Speed USB to UART + SPI + IIC + JTAG
footprint QFN28_4x4
pins: 0 GND (power), 1 XI (in), 2 XO (out), 3 RST# (in), 4 TXD1 (out), 5 RXD1 (in), 6 VIO (power), 7 SCS1/DTR1/TNOW1 (out), 8 SRST/ACT (out), 9 TRST/GPIO3 (out), 10 DTR0/TNOW0/GPIO2 (out), 11 SCL/CTS1 (out), 12 SDA/RTS1 (io), 13 SCS0 (out), 14 SCK (out), 15 MISO (in), 16 MOSI (out), 17 CTS0/GPIO0 (in), 18 RTS0/GPIO1 (out), 19 TXD0 (out), 20 GND (power), 21 VCC (power), 22 RXD0 (in), 23 TCK/SWDCLK/GPIO4 (out), 24 TDO/GPIO5 (in), 25 TDI/GPIO6 (out), 26 TMS/SWDIO/GPIO7 (out), 27 UD- (io), 28 UD+ (io)

## CH347T
designator U?
High Speed USB to UART / SPI / IIC / JTAG
footprint TSSOP20
pins: 1 RST# (in), 2 CTS1/GPIO6 (in), 3 TXD1 (out), 4 RXD1 (in), 5 DSR0/GPIO2/SCS0/TMS (in), 6 CTS0/GPIO0/SCK/TCK (in), 7 RTS0/GPIO1/MISO/TDO (out), 8 TXD0/MOSI/TDI (out), 9 TNOW0/DTR0/GPIO5/SCS1/TRST (out), 10 TNOW1/DTR1 (out), 11 RI0/GPIO3/SCL (in), 12 RXD0/SDA (in), 13 RTS1/GPIO7 (out), 14 VCC (power), 15 DCD0/GPIO4/ACT (in), 16 UD- (io), 17 UD+ (io), 18 GND (power), 19 XI (in), 20 XO (out)

## CH348L
designator U?
High Speed USB to eight enhanced TTL Serial / 8 *UART
footprint LQFP100
pins: 1 DCD5/GPIO40 (in), 2 RI5/GPIO41 (in), 3 DSR1/GPIO27 (in), 4 DCD1/GPIO28 (in), 5 RI1/GPIO29 (in), 6 NC, 7 CFG (in), 8 NC, 9 NC, 10 GND (power), 11 VCC (power), 12 XI (in), 13 XO (out), 14 RESET (in), 15 TXD5 (out), 16 RXD5 (in), 17 TXD6 (out), 18 RXD6 (in), 19 GND (power), 20 GND (power), 21 VIO (power), 22 VIO (power), 23 CTS1/GPIO2 (in), 24 RTS1/GPIO3 (out), 25 TXD1 (out), 26 RXD1 (in), 27 GND (power), 28 VCC (power), 29 ACT (out), 30 DTR1/TNOW1/GPIO9 (out), 31 CTS6/GPIO16 (in), 32 RTS6/GPIO17 (out), 33 TXD7 (out), 34 RXD7 (in), 35 CTS7/GPIO18 (in), 36 RTS7/GPIO19 (out), 37 GND (power), 38 DSR7/GPIO45 (in), 39 DCD7/GPIO46 (in), 40 RI7/GPIO47 (in), 41 DSR6/GPIO42 (in), 42 DCD6/GPIO43 (in), 43 RI6/GPIO44 (in), 44 DSR3/GPIO33 (in), 45 DCD3/GPIO34 (in), 46 RI3/GPIO35 (in), 47 TXD2 (out), 48 RXD2 (in), 49 GND (power), 50 VIO (power), 51 CTS3/GPIO6 (in), 52 CTS2/GPIO4 (in), 53 RTS2/GPIO5 (out), 54 RTS3/GPIO7 (out), 55 DSR2/GPIO30 (in), 56 DCD2/GPIO31 (in), 57 RI2/GPIO32 (in), 58 NC, 59 NC, 60 DSR0/GPIO24 (in), 61 DCD0/GPIO26 (in), 62 RI0/GPIO25 (in), 63 DTR4/TNOW4/GPIO20 (out), 64 DTR5/TNOW5/GPIO21 (out), 65 DTR6/TNOW6/GPIO22 (out), 66 DTR7/TNOW7/GPIO23 (out), 67 DTR2/TNOW2/GPIO10 (out), 68 TXD0 (out), 69 RXD0 (in), 70 CTS0/GPIO0 (in), 71 RTS0/GPIO1 (out), 72 DTR0/TNOW0/GPIO8 (out), 73 NC, 74 GND (power), 75 VCC (power), 76 TX_S (out), 77 RX_S (out), 78 TXD3 (out), 79 RXD3 (in), 80 TXD4 (out), 81 NC, 82 NC, 83 RXD4 (in), 84 NC, 85 NC, 86 DSR4/GPIO36 (in), 87 DCD4/GPIO37 (in), 88 RI4/GPIO38 (in), 89 DTR3/TNOW3/GPIO11 (out), 90 CTS4/GPIO12 (in), 91 RTS4/GPIO13 (out), 92 UD- (io), 93 UD+ (io), 94 TEST (in), 95 CTS5/GPIO14 (in), 96 RTS5/GPIO15 (out), 97 NC, 98 DSR5/GPIO39 (in), 99 GND (power), 100 VIO (power)

## CH348Q
designator U?
High Speed USB to eight enhanced TTL Serial / 8 *UART
footprint LQFP48
pins: 1 NC, 2 CFG (in), 3 NC, 4 NC, 5 XI (in), 6 XO (out), 7 RESET (in), 8 GND (power), 9 VCC (power), 10 CTS1/GPIO2 (in), 11 RTS1/GPIO3 (out), 12 TXD1 (out), 13 RXD1 (in), 14 ACT (out), 15 DTR1/TNOW1/GPIO9 (out), 16 TXD6 (out), 17 RXD6 (in), 18 TXD3 (out), 19 RXD3 (in), 20 GND (power), 21 TXD2 (out), 22 RXD2 (in), 23 GND (power), 24 VCC (power), 25 CTS3/GPIO6 (in), 26 CTS2/GPIO4 (in), 27 RTS2/GPIO5 (out), 28 RTS3/GPIO7 (out), 29 DTR2/TNOW2/GPIO10 (out), 30 TXD0 (out), 31 RXD0 (in), 32 CTS0/GPIO0 (in), 33 RTS0/GPIO1 (out), 34 DTR0/TNOW0/GPIO8 (out), 35 GND (power), 36 VCC (power), 37 TXD7 (out), 38 RXD7 (in), 39 DTR3/TNOW3/GPIO11 (out), 40 TXD4 (out), 41 RXD4 (in), 42 UD- (io), 43 UD+ (io), 44 TEST (in), 45 TXD5 (out), 46 RXD5 (in), 47 GND (power), 48 VCC (power)

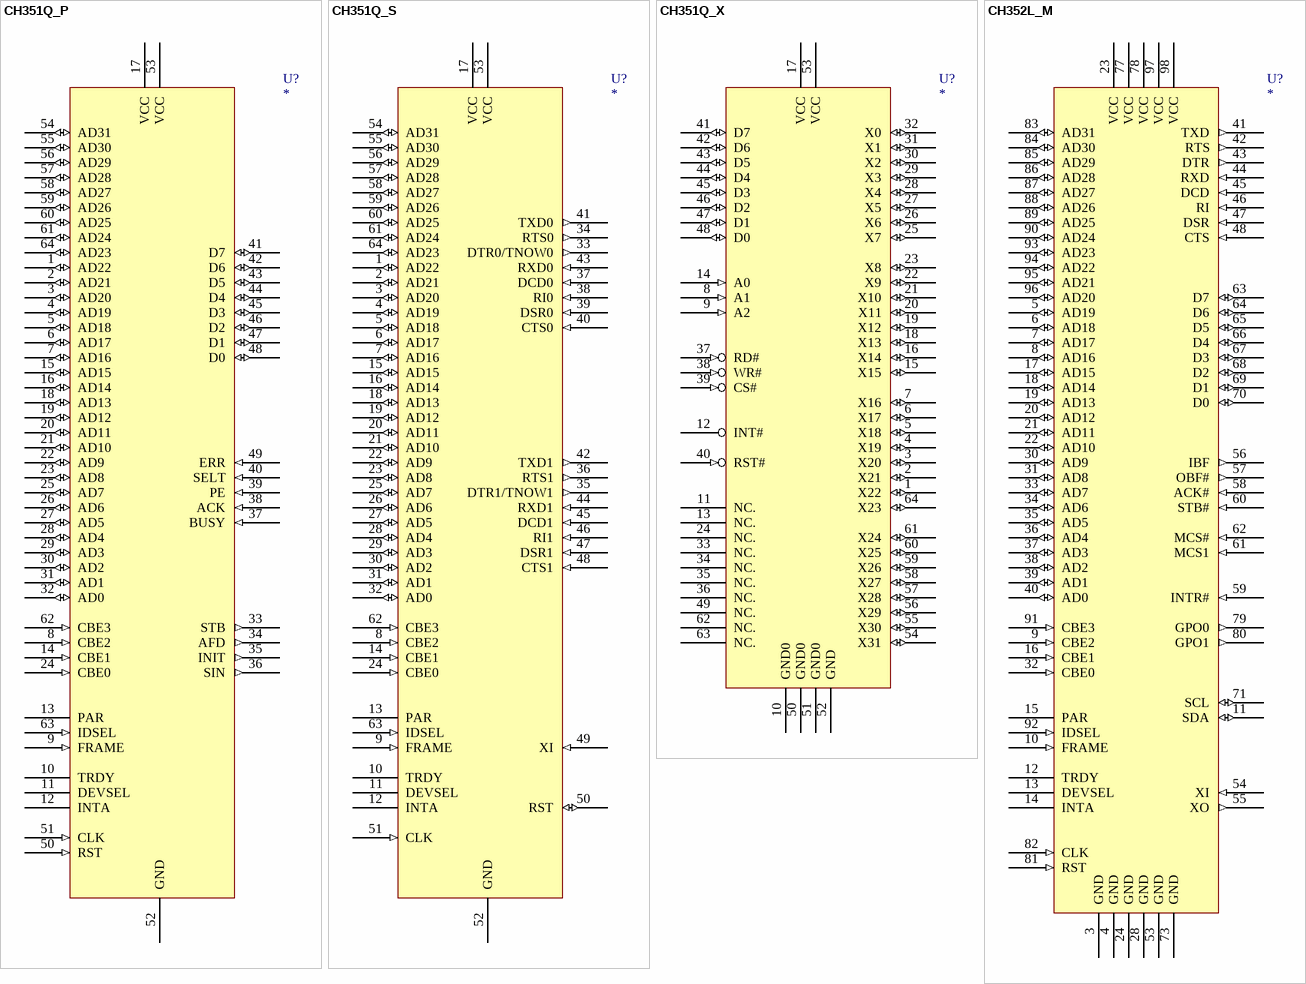
[diagram p17: symbols CH351Q_P to CH352L_M]

## CH351Q_P
designator U?
PCI to 1P: Print Port / Parallel
footprint LQFP64
pins: 1 AD22 (io), 2 AD21 (io), 3 AD20 (io), 4 AD19 (io), 5 AD18 (io), 6 AD17 (io), 7 AD16 (io), 8 CBE2 (in), 9 FRAME (in), 10 TRDY (hiz), 11 DEVSEL (hiz), 12 INTA (hiz), 13 PAR (hiz), 14 CBE1 (in), 15 AD15 (io), 16 AD14 (io), 17 VCC (power), 18 AD13 (io), 19 AD12 (io), 20 AD11 (io), 21 AD10 (io), 22 AD9 (io), 23 AD8 (io), 24 CBE0 (in), 25 AD7 (io), 26 AD6 (io), 27 AD5 (io), 28 AD4 (io), 29 AD3 (io), 30 AD2 (io), 31 AD1 (io), 32 AD0 (io), 33 STB (out), 34 AFD (out), 35 INIT (out), 36 SIN (out), 37 BUSY (in), 38 ACK (in), 39 PE (in), 40 SELT (in), 41 D7 (io), 42 D6 (io), 43 D5 (io), 44 D4 (io), 45 D3 (io), 46 D2 (io), 47 D1 (io), 48 D0 (io), 49 ERR (in), 50 RST (in), 51 CLK (in), 52 GND (power), 53 VCC (power), 54 AD31 (io), 55 AD30 (io), 56 AD29 (io), 57 AD28 (io), 58 AD27 (io), 59 AD26 (io), 60 AD25 (io), 61 AD24 (io), 62 CBE3 (in), 63 IDSEL (in), 64 AD23 (io)

## CH351Q_S
designator U?
PCI to 2S: Dual 16C550 UART, TTL Serial*2
footprint LQFP64
pins: 1 AD22 (io), 2 AD21 (io), 3 AD20 (io), 4 AD19 (io), 5 AD18 (io), 6 AD17 (io), 7 AD16 (io), 8 CBE2 (in), 9 FRAME (in), 10 TRDY (hiz), 11 DEVSEL (hiz), 12 INTA (hiz), 13 PAR (hiz), 14 CBE1 (in), 15 AD15 (io), 16 AD14 (io), 17 VCC (power), 18 AD13 (io), 19 AD12 (io), 20 AD11 (io), 21 AD10 (io), 22 AD9 (io), 23 AD8 (io), 24 CBE0 (in), 25 AD7 (io), 26 AD6 (io), 27 AD5 (io), 28 AD4 (io), 29 AD3 (io), 30 AD2 (io), 31 AD1 (io), 32 AD0 (io), 33 DTR0/TNOW0 (out), 34 RTS0 (out), 35 DTR1/TNOW1 (out), 36 RTS1 (out), 37 DCD0 (in), 38 RI0 (in), 39 DSR0 (in), 40 CTS0 (in), 41 TXD0 (out), 42 TXD1 (out), 43 RXD0 (in), 44 RXD1 (in), 45 DCD1 (in), 46 RI1 (in), 47 DSR1 (in), 48 CTS1 (in), 49 XI (in), 50 RST (io), 51 CLK (in), 52 GND (power), 53 VCC (power), 54 AD31 (io), 55 AD30 (io), 56 AD29 (io), 57 AD28 (io), 58 AD27 (io), 59 AD26 (io), 60 AD25 (io), 61 AD24 (io), 62 CBE3 (in), 63 IDSEL (in), 64 AD23 (io)